# Altium schematic symbol library vTTL.SCHLIB: 172 symbols
Pins are listed as number, name and electrical type; pins without a type are passive.

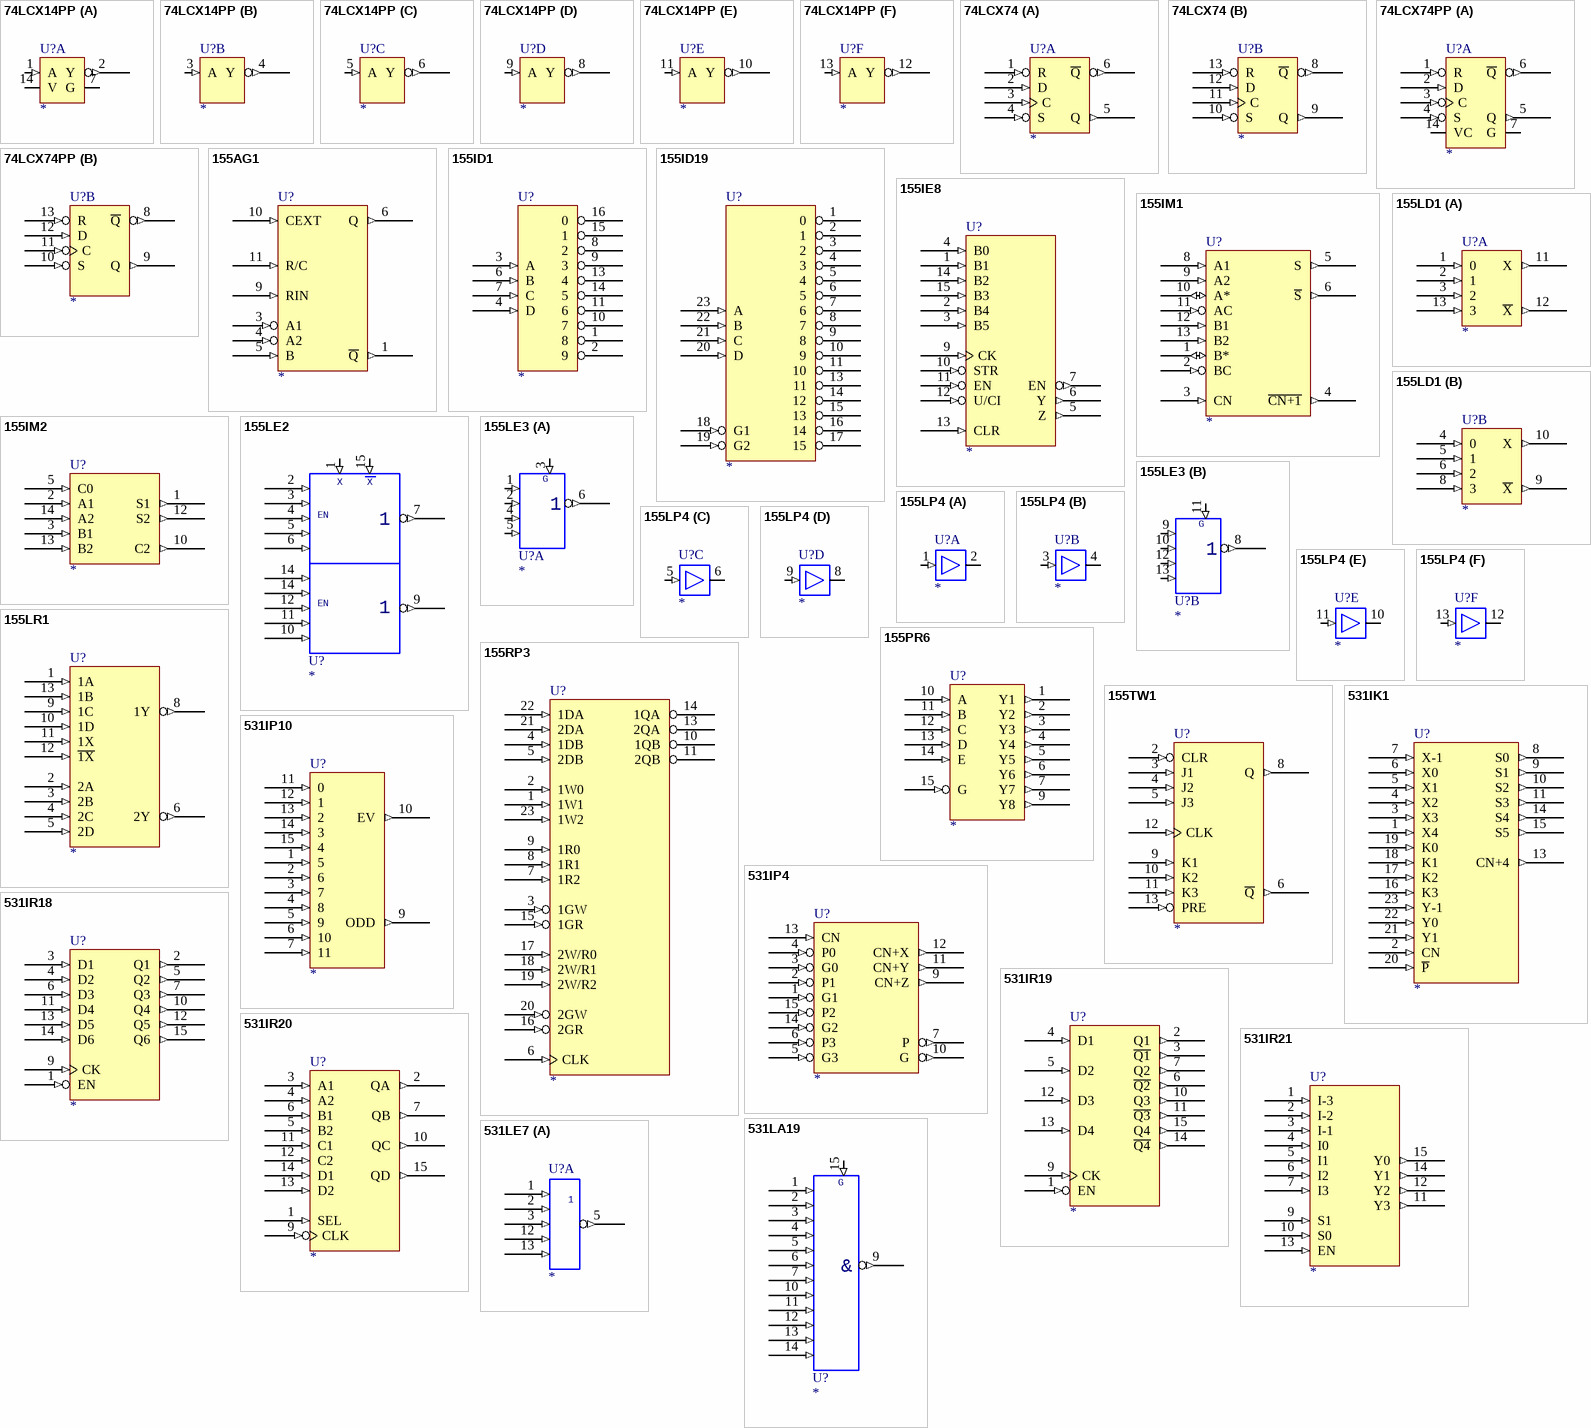
[diagram p0: symbols 74LCX14PP to 531LE7]

## 74LCX14PP
designator U?
Text Field1: 30; Text Field2: 30
part A pins: 1 A (in), 2 Y (out), 7 G, 14 V
part B pins: 3 A (in), 4 Y (out)
part C pins: 5 A (in), 6 Y (out)
part D pins: 8 Y (out), 9 A (in)
part E pins: 10 Y (out), 11 A (in)
part F pins: 12 Y (out), 13 A (in)

## 74LCX74
designator U?
Text Field1: 40; Text Field2: 50
part A pins: 1 R (in), 2 D (in), 3 C (in), 4 S (in), 5 Q (out), 6 ~{Q} (out), 7 GND (power) hidden to GND, 14 +5V (power) hidden to +5V
part B pins: 7 GND (power) hidden to GND, 8 ~{Q} (out), 9 Q (out), 10 S (in), 11 C (in), 12 D (in), 13 R (in), 14 +5V (power) hidden to +5V

## 74LCX74PP
designator U?
Text Field1: 40; Text Field2: 60
part A pins: 1 R (in), 2 D (in), 3 C (in), 4 S (in), 5 Q (out), 6 ~{Q} (out), 7 G, 14 VC
part B pins: 8 ~{Q} (out), 9 Q (out), 10 S (in), 11 C (in), 12 D (in), 13 R (in)

## 155AG1
designator U?
Text Field1: 60; Text Field2: 110
pins: 1 ~{Q} (out), 3 A1 (in), 4 A2 (in), 5 B (in), 6 Q (out), 9 RIN (in), 10 CEXT (in), 11 R/C (in)

## 155ID1
designator U?
Text Field1: 40; Text Field2: 110
pins: 1 8 (oc), 2 9 (oc), 3 A (in), 4 D (in), 6 B (in), 7 C (in), 8 2 (oc), 9 3 (oc), 10 7 (oc), 11 6 (oc), 13 4 (oc), 14 5 (oc), 15 1 (oc), 16 0 (oc)

## 155ID19
designator U?
Text Field1: 60; Text Field2: 170
pins: 1 0 (oc), 2 1 (oc), 3 2 (oc), 4 3 (oc), 5 4 (oc), 6 5 (oc), 7 6 (oc), 8 7 (oc), 9 8 (oc), 10 9 (oc), 11 10 (oc), 13 11 (oc), 14 12 (oc), 15 13 (oc), 16 14 (oc), 17 15 (oc), 18 G1 (in), 19 G2 (in), 20 D (in), 21 C (in), 22 B (in), 23 A (in)

## 155IE8
designator U?
Text Field1: 60; Text Field2: 140
pins: 1 B1 (in), 2 B4 (in), 3 B5 (in), 4 B0 (in), 5 Z (out), 6 Y (out), 7 EN (out), 9 CK (in), 10 STR (in), 11 EN (in), 12 U/CI (in), 13 CLR (in), 14 B2 (in), 15 B3 (in)

## 155IM1
designator U?
Text Field1: 70; Text Field2: 110
pins: 1 B* (io), 2 BC (in), 3 CN (in), 4 ~{CN+1} (out), 5 S (out), 6 ~{S} (out), 8 A1 (in), 9 A2 (in), 10 A* (io), 11 AC (in), 12 B1 (in), 13 B2 (in)

## 155IM2
designator U?
Text Field1: 60; Text Field2: 60
pins: 1 S1 (out), 2 A1 (in), 3 B1 (in), 5 C0 (in), 10 C2 (out), 12 S2 (out), 13 B2 (in), 14 A2 (in)

## 155LD1
designator U?
Text Field1: 40; Text Field2: 50
part A pins: 1 0 (in), 2 1 (in), 3 2 (in), 11 X (out), 12 ~{X} (out), 13 3 (in)
part B pins: 4 0 (in), 5 1 (in), 6 2 (in), 8 3 (in), 9 ~{X} (out), 10 X (out)

## 155LE2
designator U?
Text Field1: 60; Text Field2: 120
pins: 1 X (in), 2 0 (in), 3 1 (in), 4 2 (in), 5 3 (in), 6 4 (in), 7 ~{O} (out), 9 ~{O} (out), 10 9 (in), 11 8 (in), 12 7 (in), 14 5 (in), 14 6 (in), 15 ~{X} (in)
text: EN

## 155LE3
designator U?
Text Field1: 30; Text Field2: 50
part A pins: 1 0 (in), 2 1 (in), 3 G (in), 4 2 (in), 5 3 (in), 6 ~{O} (out)
part B pins: 8 ~{O} (out), 9 0 (in), 10 1 (in), 11 G (in), 12 2 (in), 13 3 (in)

## 155LP4
designator U?
Text Field1: 20; Text Field2: 20
part A pins: 1 IN (in), 2 OUT (oc), 7 GND (power) hidden to GND, 14 +5V (power) hidden to +5V
part B pins: 3 IN (in), 4 OUT (oc), 7 GND (power) hidden to GND, 14 +5V (power) hidden to +5V
part C pins: 5 IN (in), 6 OUT (oc), 7 GND (power) hidden to GND, 14 +5V (power) hidden to +5V
part D pins: 7 GND (power) hidden to GND, 8 OUT (oc), 9 IN (in), 14 +5V (power) hidden to +5V
part E pins: 7 GND (power) hidden to GND, 10 OUT (oc), 11 IN (in), 14 +5V (power) hidden to +5V
part F pins: 7 GND (power) hidden to GND, 12 OUT (oc), 13 IN (in), 14 +5V (power) hidden to +5V

## 155LR1
designator U?
Text Field1: 60; Text Field2: 120
pins: 1 1A (in), 2 2A (in), 3 2B (in), 4 2C (in), 5 2D (in), 6 2Y (out), 8 1Y (out), 9 1C (in), 10 1D (in), 11 1X (in), 12 ~{1X} (in), 13 1B (in)

## 155PR6
designator U?
Text Field1: 50; Text Field2: 90
pins: 1 Y1 (out), 2 Y2 (out), 3 Y3 (out), 4 Y4 (out), 5 Y5 (out), 6 Y6 (out), 7 Y7 (out), 9 Y8 (out), 10 A (in), 11 B (in), 12 C (in), 13 D (in), 14 E (in), 15 G (in)

## 155RP3
designator U?
Text Field1: 80; Text Field2: 250
pins: 1 1W1 (in), 2 1W0 (in), 3 1GW (in), 4 1DB (in), 5 2DB (in), 6 CLK (in), 7 1R2 (in), 8 1R1 (in), 9 1R0 (in), 10 1QB (hiz), 11 2QB (hiz), 13 2QA (hiz), 14 1QA (hiz), 15 1GR (in), 16 2GR (in), 17 2W/R0 (in), 18 2W/R1 (in), 19 2W/R2 (in), 20 2GW (in), 21 2DA (in), 22 1DA (in), 23 1W2 (in)

## 155TW1
designator U?
Text Field1: 60; Text Field2: 120
pins: 2 CLR (in), 3 J1 (in), 4 J2 (in), 5 J3 (in), 6 ~{Q} (out), 8 Q (out), 9 K1 (in), 10 K2 (in), 11 K3 (in), 12 CLK (in), 13 PRE (in)

## 531IK1
designator U?
Text Field1: 70; Text Field2: 160
pins: 1 X4 (in), 2 CN (in), 3 X3 (in), 4 X2 (in), 5 X1 (in), 6 X0 (in), 7 X-1 (in), 8 S0 (out), 9 S1 (out), 10 S2 (out), 11 S3 (out), 13 CN+4 (out), 14 S4 (out), 15 S5 (out), 16 K3 (in), 17 K2 (in), 18 K1 (in), 19 K0 (in), 20 ~{P} (in), 21 Y1 (in), 22 Y0 (in), 23 Y-1 (in)

## 531IP4
designator U?
Text Field1: 70; Text Field2: 100
pins: 1 G1 (in), 2 P1 (in), 3 G0 (in), 4 P0 (in), 5 G3 (in), 6 P3 (in), 7 P (out), 9 CN+Z (out), 10 G (out), 11 CN+Y (out), 12 CN+X (out), 13 CN (in), 14 G2 (in), 15 P2 (in)

## 531IP10
designator U?
Text Field1: 50; Text Field2: 130
pins: 1 5 (in), 2 6 (in), 3 7 (in), 4 8 (in), 5 9 (in), 6 10 (in), 7 11 (in), 9 ODD (out), 10 EV (out), 11 0 (in), 12 1 (in), 13 2 (in), 14 3 (in), 15 4 (in)

## 531IR18
designator U?
Text Field1: 60; Text Field2: 100
pins: 1 EN (in), 2 Q1 (out), 3 D1 (in), 4 D2 (in), 5 Q2 (out), 6 D3 (in), 7 Q3 (out), 9 CK (in), 10 Q4 (out), 11 D4 (in), 12 Q5 (out), 13 D5 (in), 14 D6 (in), 15 Q6 (out)

## 531IR19
designator U?
Text Field1: 60; Text Field2: 120
pins: 1 EN (in), 2 Q1 (out), 3 ~{Q1} (out), 4 D1 (in), 5 D2 (in), 6 ~{Q2} (out), 7 Q2 (out), 9 CK (in), 10 Q3 (out), 11 ~{Q3} (out), 12 D3 (in), 13 D4 (in), 14 ~{Q4} (out), 15 Q4 (out)

## 531IR20
designator U?
Text Field1: 60; Text Field2: 120
pins: 1 SEL (in), 2 QA (out), 3 A1 (in), 4 A2 (in), 5 B2 (in), 6 B1 (in), 7 QB (out), 9 CLK (in), 10 QC (out), 11 C1 (in), 12 C2 (in), 13 D2 (in), 14 D1 (in), 15 QD (out)

## 531IR21
designator U?
Text Field1: 60; Text Field2: 120
pins: 1 I-3 (in), 2 I-2 (in), 3 I-1 (in), 4 I0 (in), 5 I1 (in), 6 I2 (in), 7 I3 (in), 9 S1 (in), 10 S0 (in), 11 Y3 (out), 12 Y2 (out), 13 EN (in), 14 Y1 (out), 15 Y0 (out)

## 531LA19
designator U?
Text Field1: 30; Text Field2: 130
pins: 1 0 (in), 2 1 (in), 3 2 (in), 4 3 (in), 5 4 (in), 6 5 (in), 7 6 (in), 9 ~{O} (out), 10 7 (in), 11 8 (in), 12 9 (in), 13 10 (in), 14 11 (in), 15 G (in)
text: &

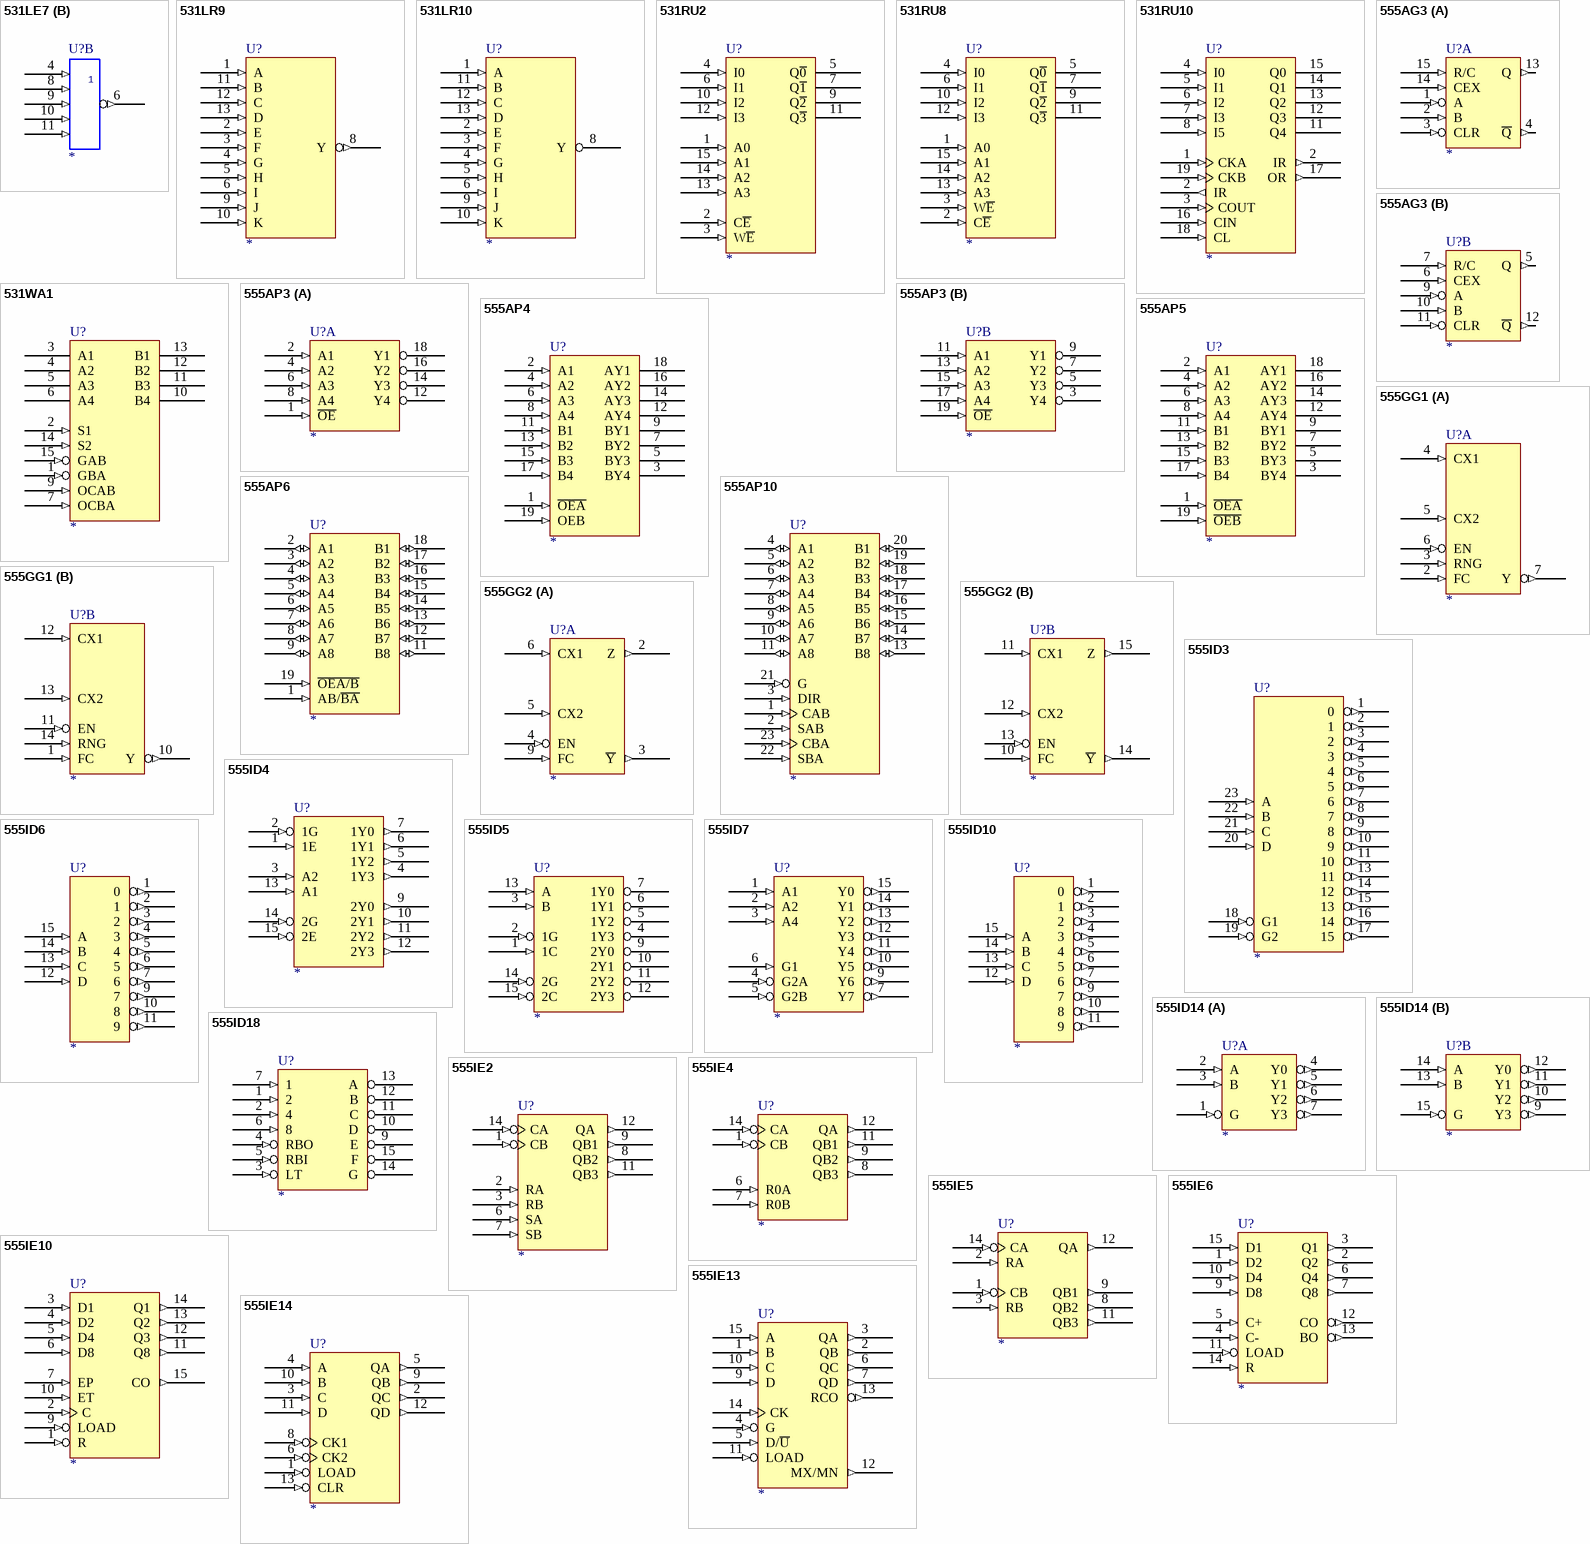
[diagram p1: symbols 531LE7 to 555IE14]

## 531LE7
designator U?
Text Field1: 20; Text Field2: 60
part A pins: 1 0 (in), 2 1 (in), 3 2 (in), 5 ~{O} (out), 12 3 (in), 13 4 (in)
part B pins: 4 0 (in), 6 ~{O} (out), 8 1 (in), 9 2 (in), 10 3 (in), 11 4 (in)

## 531LR9
designator U?
Text Field1: 60; Text Field2: 120
pins: 1 A (in), 2 E (in), 3 F (in), 4 G (in), 5 H (in), 6 I (in), 8 Y (out), 9 J (in), 10 K (in), 11 B (in), 12 C (in), 13 D (in)

## 531LR10
designator U?
Text Field1: 60; Text Field2: 120
pins: 1 A (in), 2 E (in), 3 F (in), 4 G (in), 5 H (in), 6 I (in), 8 Y (oc), 9 J (in), 10 K (in), 11 B (in), 12 C (in), 13 D (in)

## 531RU2
designator U?
Text Field1: 60; Text Field2: 130
pins: 1 A0 (in), 2 C~{E} (in), 3 W~{E} (in), 4 I0 (in), 5 Q~{0} (oc), 6 I1 (in), 7 Q~{1} (oc), 9 Q~{2} (oc), 10 I2 (in), 11 Q~{3} (oc), 12 I3 (in), 13 A3 (in), 14 A2 (in), 15 A1 (in)

## 531RU8
designator U?
Text Field1: 60; Text Field2: 120
pins: 1 A0 (in), 2 C~{E} (in), 3 W~{E} (in), 4 I0 (in), 5 Q~{0} (hiz), 6 I1 (in), 7 Q~{1} (hiz), 9 Q~{2} (hiz), 10 I2 (in), 11 Q~{3} (hiz), 12 I3 (in), 13 A3 (in), 14 A2 (in), 15 A1 (in)

## 531RU10
designator U?
Text Field1: 60; Text Field2: 130
pins: 1 CKA (in), 2 IR (out), 2 IR (out), 3 COUT (in), 4 I0 (in), 5 I1 (in), 6 I2 (in), 7 I3 (in), 8 I5 (in), 11 Q4 (hiz), 12 Q3 (hiz), 13 Q2 (hiz), 14 Q1 (hiz), 15 Q0 (hiz), 16 CIN (in), 17 OR (out), 18 CL (in), 19 CKB (in)

## 531WA1
designator U?
Text Field1: 60; Text Field2: 120
pins: 1 GBA (in), 2 S1 (in), 3 A1 (hiz), 4 A2 (hiz), 5 A3 (hiz), 6 A4 (hiz), 7 OCBA (in), 9 OCAB (in), 10 B4 (hiz), 11 B3 (hiz), 12 B2 (hiz), 13 B1 (hiz), 14 S2 (in), 15 GAB (in)

## 555AG3
designator U?
Text Field1: 50; Text Field2: 60
part A pins: 1 A (in), 2 B (in), 3 CLR (in), 4 ~{Q} (out), 13 Q (out), 14 CEX (in), 15 R/C (in)
part B pins: 5 Q (out), 6 CEX (in), 7 R/C (in), 9 A (in), 10 B (in), 11 CLR (in), 12 ~{Q} (out)

## 555AP3
designator U?
Text Field1: 60; Text Field2: 60
part A pins: 1 ~{OE} (in), 2 A1 (in), 4 A2 (in), 6 A3 (in), 8 A4 (in), 12 Y4 (hiz), 14 Y3 (hiz), 16 Y2 (hiz), 18 Y1 (hiz)
part B pins: 3 Y4 (hiz), 5 Y3 (hiz), 7 Y2 (hiz), 9 Y1 (hiz), 11 A1 (in), 13 A2 (in), 15 A3 (in), 17 A4 (in), 19 ~{OE} (in)

## 555AP4
designator U?
Text Field1: 60; Text Field2: 120
pins: 1 ~{OEA} (in), 2 A1 (in), 3 BY4 (hiz), 4 A2 (in), 5 BY3 (hiz), 6 A3 (in), 7 BY2 (hiz), 8 A4 (in), 9 BY1 (hiz), 11 B1 (in), 12 AY4 (hiz), 13 B2 (in), 14 AY3 (hiz), 15 B3 (in), 16 AY2 (hiz), 17 B4 (in), 18 AY1 (hiz), 19 OEB (in)

## 555AP5
designator U?
Text Field1: 60; Text Field2: 120
pins: 1 ~{OEA} (in), 2 A1 (in), 3 BY4 (hiz), 4 A2 (in), 5 BY3 (hiz), 6 A3 (in), 7 BY2 (hiz), 8 A4 (in), 9 BY1 (hiz), 10 GND (power) hidden to GND, 11 B1 (in), 12 AY4 (hiz), 13 B2 (in), 14 AY3 (hiz), 15 B3 (in), 16 AY2 (hiz), 17 B4 (in), 18 AY1 (hiz), 19 ~{OEB} (in), 20 +5V (power) hidden to +5V

## 555AP6
designator U?
Text Field1: 60; Text Field2: 120
pins: 1 AB/~{BA} (in), 2 A1 (io), 3 A2 (io), 4 A3 (io), 5 A4 (io), 6 A5 (io), 7 A6 (io), 8 A7 (io), 9 A8 (io), 10 GND (power) hidden to GND, 11 B8 (io), 12 B7 (io), 13 B6 (io), 14 B5 (io), 15 B4 (io), 16 B3 (io), 17 B2 (io), 18 B1 (io), 19 ~{OEA/B} (in), 20 +5V (power) hidden to +5V

## 555AP10
designator U?
Text Field1: 60; Text Field2: 160
pins: 1 CAB (in), 2 SAB (in), 3 DIR (in), 4 A1 (io), 5 A2 (io), 6 A3 (io), 7 A4 (io), 8 A5 (io), 9 A6 (io), 10 A7 (io), 11 A8 (io), 13 B8 (io), 14 B7 (io), 15 B6 (io), 16 B5 (io), 17 B4 (io), 18 B3 (io), 19 B2 (io), 20 B1 (io), 21 G (in), 22 SBA (in), 23 CBA (in)

## 555GG1
designator U?
Text Field1: 50; Text Field2: 100
part A pins: 2 FC (in), 3 RNG (in), 4 CX1 (in), 5 CX2 (in), 6 EN (in), 7 Y (out), 8 VCOGND (power) hidden to VCOGND, 15 VCOVCC (power) hidden to VCOVCC
part B pins: 1 FC (in), 8 VCOGND (power) hidden to VCOGND, 10 Y (out), 11 EN (in), 12 CX1 (in), 13 CX2 (in), 14 RNG (in), 15 VCOVCC (power) hidden to VCOVCC

## 555GG2
designator U?
Text Field1: 50; Text Field2: 90
part A pins: 1 GND (power) hidden to GND, 2 Z (out), 3 ~{Y} (out), 4 EN (in), 5 CX2 (in), 6 CX1 (in), 7 VCOVCC (power) hidden to VCOVCC, 9 FC (in)
part B pins: 1 GND (power) hidden to GND, 7 VCOVCC (power) hidden to VCOVCC, 10 FC (in), 11 CX1 (in), 12 CX2 (in), 13 EN (in), 14 ~{Y} (out), 15 Z (out)

## 555ID3
designator U?
Text Field1: 60; Text Field2: 170
pins: 1 0 (out), 2 1 (out), 3 2 (out), 4 3 (out), 5 4 (out), 6 5 (out), 7 6 (out), 8 7 (out), 9 8 (out), 10 9 (out), 11 10 (out), 13 11 (out), 14 12 (out), 15 13 (out), 16 14 (out), 17 15 (out), 18 G1 (in), 19 G2 (in), 20 D (in), 21 C (in), 22 B (in), 23 A (in)

## 555ID4
designator U?
Text Field1: 60; Text Field2: 100
pins: 1 1E (in), 2 1G (in), 3 A2 (in), 4 1Y3 (out), 5 1Y2 (out), 6 1Y1 (out), 7 1Y0 (out), 9 2Y0 (out), 10 2Y1 (out), 11 2Y2 (out), 12 2Y3 (out), 13 A1 (in), 14 2G (in), 15 2E (in)

## 555ID5
designator U?
Text Field1: 60; Text Field2: 90
pins: 1 1C (in), 2 1G (in), 3 B (in), 4 1Y3 (oc), 5 1Y2 (oc), 6 1Y1 (oc), 7 1Y0 (oc), 9 2Y0 (oc), 10 2Y1 (oc), 11 2Y2 (oc), 12 2Y3 (oc), 13 A (in), 14 2G (in), 15 2C (in)

## 555ID6
designator U?
Text Field1: 40; Text Field2: 110
pins: 1 0 (out), 2 1 (out), 3 2 (out), 4 3 (out), 5 4 (out), 6 5 (out), 7 6 (out), 9 7 (out), 10 8 (out), 11 9 (out), 12 D (in), 13 C (in), 14 B (in), 15 A (in)

## 555ID7
designator U?
Text Field1: 60; Text Field2: 90
pins: 1 A1 (in), 2 A2 (in), 3 A4 (in), 4 G2A (in), 5 G2B (in), 6 G1 (in), 7 Y7 (out), 9 Y6 (out), 10 Y5 (out), 11 Y4 (out), 12 Y3 (out), 13 Y2 (out), 14 Y1 (out), 15 Y0 (out)

## 555ID10
designator U?
Text Field1: 40; Text Field2: 110
pins: 1 0 (out), 2 1 (out), 3 2 (out), 4 3 (out), 5 4 (out), 6 5 (out), 7 6 (out), 9 7 (out), 10 8 (out), 11 9 (out), 12 D (in), 13 C (in), 14 B (in), 15 A (in)

## 555ID14
designator U?
Text Field1: 50; Text Field2: 50
part A pins: 1 G (in), 2 A (in), 3 B (in), 4 Y0 (out), 5 Y1 (out), 6 Y2 (out), 7 Y3 (out)
part B pins: 9 Y3 (out), 10 Y2 (out), 11 Y1 (out), 12 Y0 (out), 13 B (in), 14 A (in), 15 G (in)

## 555ID18
designator U?
Text Field1: 60; Text Field2: 80
pins: 1 2 (in), 2 4 (in), 3 LT (in), 4 RBO (in), 5 RBI (in), 6 8 (in), 7 1 (in), 9 E (oc), 10 D (oc), 11 C (oc), 12 B (oc), 13 A (oc), 14 G (oc), 15 F (oc)

## 555IE2
designator U?
Text Field1: 60; Text Field2: 90
pins: 1 CB (in), 2 RA (in), 3 RB (in), 6 SA (in), 7 SB (in), 8 QB2 (out), 9 QB1 (out), 11 QB3 (out), 12 QA  (out), 14 CA (in)

## 555IE4
designator U?
Text Field1: 60; Text Field2: 70
pins: 1 CB (in), 6 R0A (in), 7 R0B (in), 8 QB3 (out), 9 QB2 (out), 11 QB1 (out), 12 QA (out), 14 CA (in)

## 555IE5
designator U?
Text Field1: 60; Text Field2: 70
pins: 1 CB (in), 2 RA (in), 3 RB (in), 8 QB2 (out), 9 QB1 (out), 11 QB3 (out), 12 QA (out), 14 CA (in)

## 555IE6
designator U?
Text Field1: 60; Text Field2: 100
pins: 1 D2 (in), 2 Q2 (out), 3 Q1 (out), 4 C- (in), 5 C+ (in), 6 Q4 (out), 7 Q8 (out), 8 GND (power) hidden to GND, 9 D8 (in), 10 D4 (in), 11 LOAD (in), 12 CO (out), 13 BO (out), 14 R (in), 15 D1 (in), 16 +5V (power) hidden to +5V

## 555IE10
designator U?
Text Field1: 60; Text Field2: 110
pins: 1 R (in), 2 C (in), 3 D1 (in), 4 D2 (in), 5 D4 (in), 6 D8 (in), 7 EP (in), 8 GND (power) hidden to GND, 9 LOAD (in), 10 ET (in), 11 Q8 (out), 12 Q3 (out), 13 Q2 (out), 14 Q1 (out), 15 CO (out), 16 +5V (power) hidden to +5V

## 555IE13
designator U?
Text Field1: 60; Text Field2: 110
pins: 1 B (in), 2 QB (out), 3 QA (out), 4 G (in), 5 D/~{U} (in), 6 QC (out), 7 QD (out), 9 D (in), 10 C (in), 11 LOAD (in), 12 MX/MN (out), 13 RCO (out), 14 CK (in), 15 A (in)

## 555IE14
designator U?
Text Field1: 60; Text Field2: 100
pins: 1 LOAD (in), 2 QC (out), 3 C (in), 4 A (in), 5 QA (out), 6 CK2 (in), 8 CK1 (in), 9 QB (out), 10 B (in), 11 D (in), 12 QD (out), 13 CLR (in)

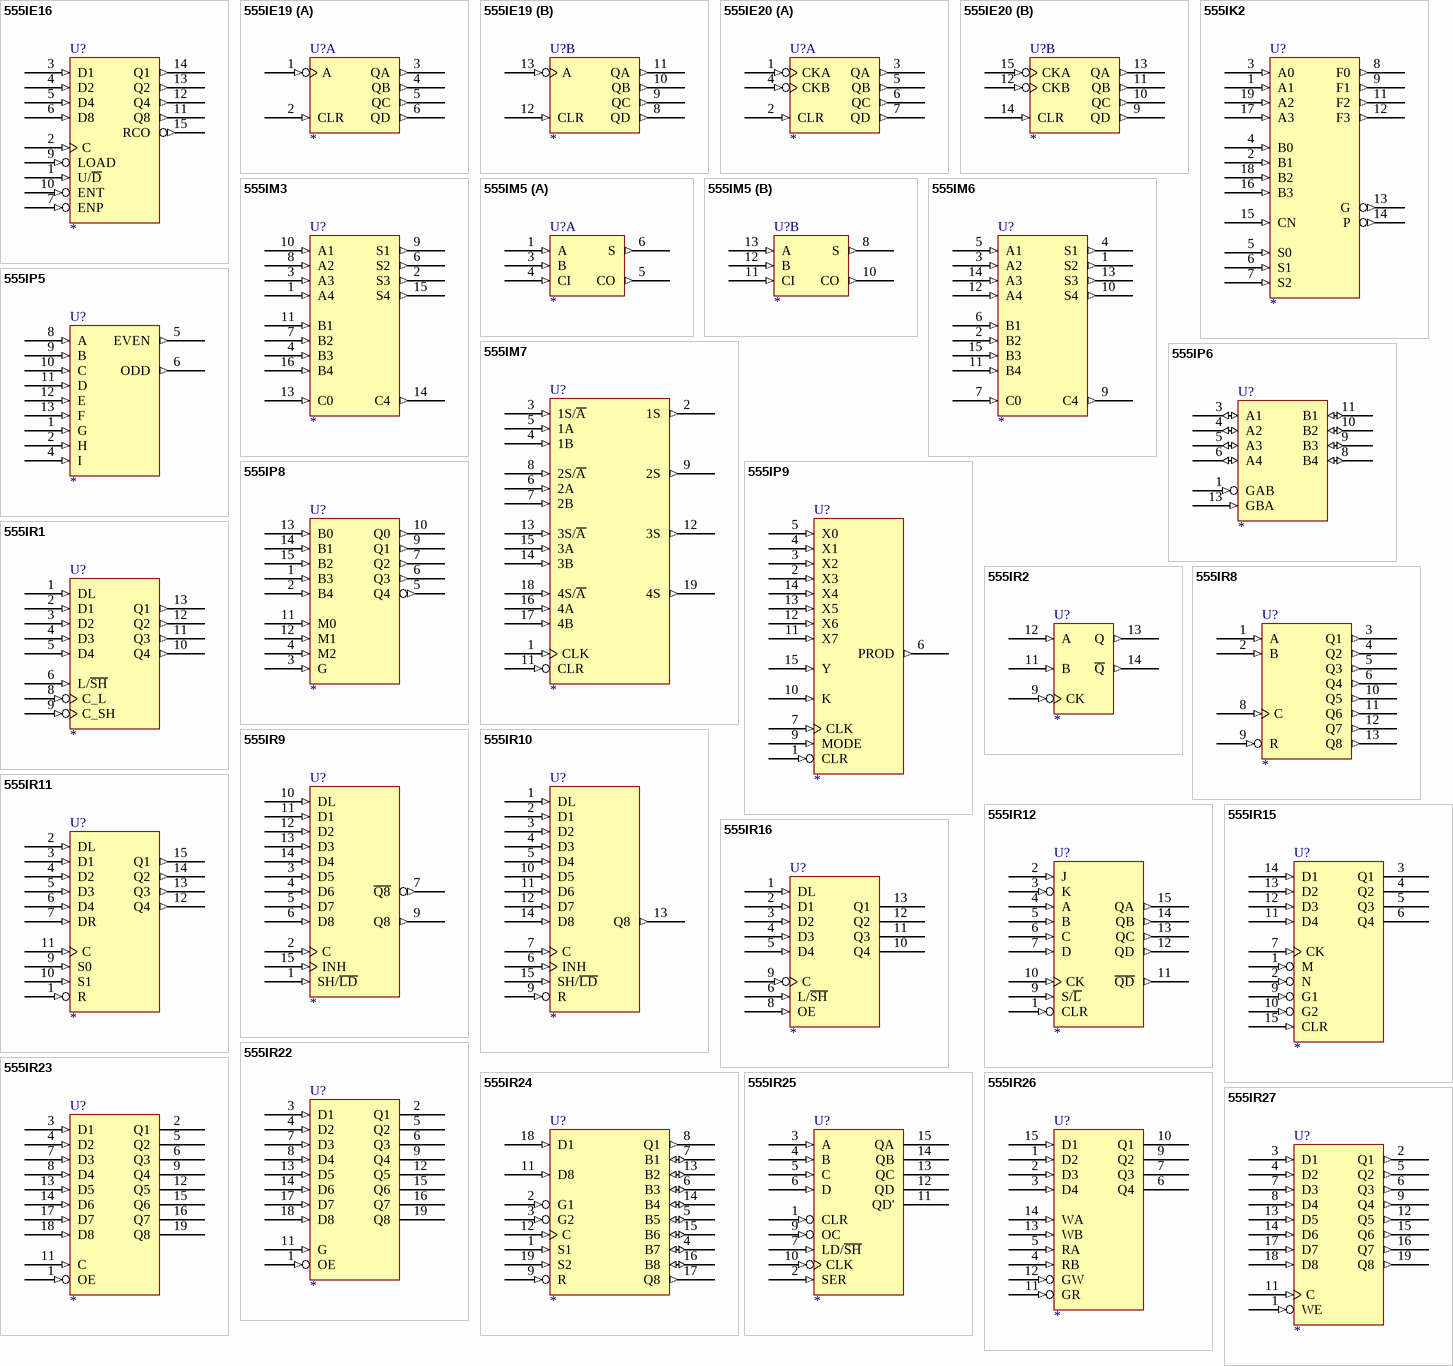
[diagram p2: symbols 555IE16 to 555IR27]

## 555IE16
designator U?
Text Field1: 60; Text Field2: 110
pins: 1 U/~{D} (in), 2 C (in), 3 D1 (in), 4 D2 (in), 5 D4 (in), 6 D8 (in), 7 ENP (in), 9 LOAD (in), 10 ENT (in), 11 Q8 (out), 12 Q4 (out), 13 Q2 (out), 14 Q1 (out), 15 RCO (out)

## 555IE19
designator U?
Text Field1: 60; Text Field2: 50
part A pins: 1 A (in), 2 CLR (in), 3 QA (out), 4 QB (out), 5 QC (out), 6 QD (out)
part B pins: 8 QD (out), 9 QC (out), 10 QB (out), 11 QA (out), 12 CLR (in), 13 A (in)

## 555IE20
designator U?
Text Field1: 60; Text Field2: 50
part A pins: 1 CKA (in), 2 CLR (in), 3 QA (out), 4 CKB (in), 5 QB (out), 6 QC (out), 7 QD (out)
part B pins: 9 QD (out), 10 QC (out), 11 QB (out), 12 CKB (in), 13 QA (out), 14 CLR (in), 15 CKA (in)

## 555IK2
designator U?
Text Field1: 60; Text Field2: 160
pins: 1 A1 (in), 2 B1 (in), 3 A0 (in), 4 B0 (in), 5 S0 (in), 6 S1 (in), 7 S2 (in), 8 F0 (out), 9 F1 (out), 11 F2 (out), 12 F3 (out), 13 G (out), 14 P (out), 15 CN (in), 16 B3 (in), 17 A3 (in), 18 B2 (in), 19 A2 (in)

## 555IM3
designator U?
Text Field1: 60; Text Field2: 120
pins: 1 A4 (in), 2 S3 (out), 3 A3 (in), 4 B3 (in), 6 S2 (out), 7 B2 (in), 8 A2 (in), 9 S1 (out), 10 A1 (in), 11 B1 (in), 13 C0 (in), 14 C4 (out), 15 S4 (out), 16 B4 (in)

## 555IM5
designator U?
Text Field1: 50; Text Field2: 40
part A pins: 1 A (in), 3 B (in), 4 CI (in), 5 CO (out), 6 S (out)
part B pins: 8 S (out), 10 CO (out), 11 CI (in), 12 B (in), 13 A (in)

## 555IM6
designator U?
Text Field1: 60; Text Field2: 120
pins: 1 S2 (out), 2 B2 (in), 3 A2 (in), 4 S1 (out), 5 A1 (in), 6 B1 (in), 7 C0 (in), 9 C4 (out), 10 S4 (out), 11 B4 (in), 12 A4 (in), 13 S3 (out), 14 A3 (in), 15 B3 (in)

## 555IM7
designator U?
Text Field1: 80; Text Field2: 190
pins: 1 CLK (in), 2 1S (out), 3 1S/~{A} (in), 4 1B (in), 5 1A (in), 6 2A (in), 7 2B (in), 8 2S/~{A} (in), 9 2S (out), 11 CLR (in), 12 3S (out), 13 3S/~{A} (in), 14 3B (in), 15 3A (in), 16 4A (in), 17 4B (in), 18 4S/~{A} (in), 19 4S (out)

## 555IP5
designator U?
Text Field1: 60; Text Field2: 100
pins: 1 G (in), 2 H (in), 4 I (in), 5 EVEN (out), 6 ODD (out), 8 A (in), 9 B (in), 10 C (in), 11 D (in), 12 E (in), 13 F (in)

## 555IP6
designator U?
Text Field1: 60; Text Field2: 80
pins: 1 GAB (in), 3 A1 (io), 4 A2 (io), 5 A3 (io), 6 A4 (io), 8 B4 (io), 9 B3 (io), 10 B2 (io), 11 B1 (io), 13 GBA (in)

## 555IP8
designator U?
Text Field1: 60; Text Field2: 110
pins: 1 B3 (in), 2 B4 (in), 3 G (in), 4 M2 (in), 5 Q4 (out), 6 Q3 (out), 7 Q2 (out), 9 Q1 (out), 10 Q0 (out), 11 M0 (in), 12 M1 (in), 13 B0 (in), 14 B1 (in), 15 B2 (in)

## 555IP9
designator U?
Text Field1: 60; Text Field2: 170
pins: 1 CLR (in), 2 X3 (in), 3 X2 (in), 4 X1 (in), 5 X0 (in), 6 PROD (out), 7 CLK (in), 9 MODE (in), 10 K (in), 11 X7 (in), 12 X6 (in), 13 X5 (in), 14 X4 (in), 15 Y (in)

## 555IR1
designator U?
Text Field1: 60; Text Field2: 100
pins: 1 DL (in), 2 D1 (in), 3 D2 (in), 4 D3 (in), 5 D4 (in), 6 L/~{SH} (in), 7 GND (power) hidden to GND, 8 C_L (in), 9 C_SH (in), 10 Q4 (out), 11 Q3 (out), 12 Q2 (out), 13 Q1 (out), 14 +5V (power) hidden to +5V

## 555IR2
designator U?
Text Field1: 40; Text Field2: 60
pins: 9 CK (in), 11 B (in), 12 A (in), 13 Q (out), 14 ~{Q} (out)

## 555IR8
designator U?
Text Field1: 60; Text Field2: 90
pins: 1 A (in), 2 B (in), 3 Q1 (out), 4 Q2 (out), 5 Q3 (out), 6 Q4 (out), 7 GND (power) hidden to GND, 8 C (in), 9 R (in), 10 Q5 (out), 11 Q6 (out), 12 Q7 (out), 13 Q8 (out), 14 VCC (power) hidden to VCC

## 555IR9
designator U?
Text Field1: 60; Text Field2: 140
pins: 1 SH/~{LD} (in), 2 C (in), 3 D5 (in), 4 D6 (in), 5 D7 (in), 6 D8 (in), 7 ~{Q8} (out), 9 Q8 (out), 10 DL (in), 11 D1 (in), 12 D2 (in), 13 D3 (in), 14 D4 (in), 15 INH (in)

## 555IR10
designator U?
Text Field1: 60; Text Field2: 150
pins: 1 DL (in), 2 D1 (in), 3 D2 (in), 4 D3 (in), 5 D4 (in), 6 INH (in), 7 C (in), 9 R (in), 10 D5 (in), 11 D6 (in), 12 D7 (in), 13 Q8 (out), 14 D8 (in), 15 SH/~{LD} (in)

## 555IR11
designator U?
Text Field1: 60; Text Field2: 120
pins: 1 R (in), 2 DL (in), 3 D1 (in), 4 D2 (in), 5 D3 (in), 6 D4 (in), 7 DR (in), 9 S0 (in), 10 S1 (in), 11 C (in), 12 Q4 (out), 13 Q3 (out), 14 Q2 (out), 15 Q1 (out)

## 555IR12
designator U?
Text Field1: 60; Text Field2: 110
pins: 1 CLR (in), 2 J (in), 3 K (in), 4 A (in), 5 B (in), 6 C (in), 7 D (in), 9 S/~{L} (in), 10 CK (in), 11 ~{QD} (out), 12 QD (out), 13 QC (out), 14 QB (out), 15 QA (out)

## 555IR15
designator U?
Text Field1: 60; Text Field2: 120
pins: 1 M (in), 2 N (in), 3 Q1 (hiz), 4 Q2 (hiz), 5 Q3 (hiz), 6 Q4 (hiz), 7 CK (in), 9 G1 (in), 10 G2 (in), 11 D4 (in), 12 D3 (in), 13 D2 (in), 14 D1 (in), 15 CLR (in)

## 555IR16
designator U?
Text Field1: 60; Text Field2: 100
pins: 1 DL (in), 2 D1 (in), 3 D2 (in), 4 D3 (in), 5 D4 (in), 6 L/~{SH} (in), 7 GND (power) hidden to GND, 8 OE (in), 9 C (in), 10 Q4 (hiz), 11 Q3 (hiz), 12 Q2 (hiz), 13 Q1 (hiz), 14 +5V (power) hidden to +5V

## 555IR22
designator U?
Text Field1: 60; Text Field2: 120
pins: 1 OE (in), 2 Q1 (hiz), 3 D1 (in), 4 D2 (in), 5 Q2 (hiz), 6 Q3 (hiz), 7 D3 (in), 8 D4 (in), 9 Q4 (hiz), 10 GND (power) hidden to GND, 11 G (in), 12 Q5 (hiz), 13 D5 (in), 14 D6 (in), 15 Q6 (hiz), 16 Q7 (hiz), 17 D7 (in), 18 D8 (in), 19 Q8 (hiz), 20 +5V (power) hidden to +5V

## 555IR23
designator U?
Text Field1: 60; Text Field2: 120
pins: 1 OE (in), 2 Q1 (hiz), 3 D1 (in), 4 D2 (in), 5 Q2 (hiz), 6 Q3 (hiz), 7 D3 (in), 8 D4 (in), 9 Q4 (hiz), 10 GND (power) hidden to GND, 11 C (in), 12 Q5 (hiz), 13 D5 (in), 14 D6 (in), 15 Q6 (hiz), 16 Q7 (hiz), 17 D7 (in), 18 D8 (in), 19 Q8 (hiz), 20 +5V (power) hidden to +5V

## 555IR24
designator U?
Text Field1: 80; Text Field2: 110
pins: 1 S1 (in), 2 G1 (in), 3 G2 (in), 4 B7 (io), 5 B5 (io), 6 B3 (io), 7 B1 (io), 8 Q1 (out), 9 R (in), 11 D8 (in), 12 C (in), 13 B2 (io), 14 B4 (io), 15 B6 (io), 16 B8 (io), 17 Q8 (out), 18 D1 (in), 19 S2 (in)

## 555IR25
designator U?
Text Field1: 60; Text Field2: 110
pins: 1 CLR (in), 2 SER (in), 3 A (in), 4 B (in), 5 C (in), 6 D (in), 7 LD/~{SH} (in), 9 OC (in), 10 CLK (in), 11 QD' (hiz), 12 QD (hiz), 13 QC (hiz), 14 QB (hiz), 15 QA (hiz)

## 555IR26
designator U?
Text Field1: 60; Text Field2: 120
pins: 1 D2 (in), 2 D3 (in), 3 D4 (in), 4 RB (in), 5 RA (in), 6 Q4 (hiz), 7 Q3 (hiz), 9 Q2 (hiz), 10 Q1 (hiz), 11 GR (in), 12 GW (in), 13 WB (in), 14 WA (in), 15 D1 (in)

## 555IR27
designator U?
Text Field1: 60; Text Field2: 120
pins: 1 WE (in), 2 Q1 (out), 3 D1 (in), 4 D2 (in), 5 Q2 (out), 6 Q3 (out), 7 D3 (in), 8 D4 (in), 9 Q4 (out), 10 GND (power) hidden to GND, 11 C (in), 12 Q5 (out), 13 D5 (in), 14 D6 (in), 15 Q6 (out), 16 Q7 (out), 17 D7 (in), 18 D8 (in), 19 Q8 (out), 20 +5V (power) hidden to +5V

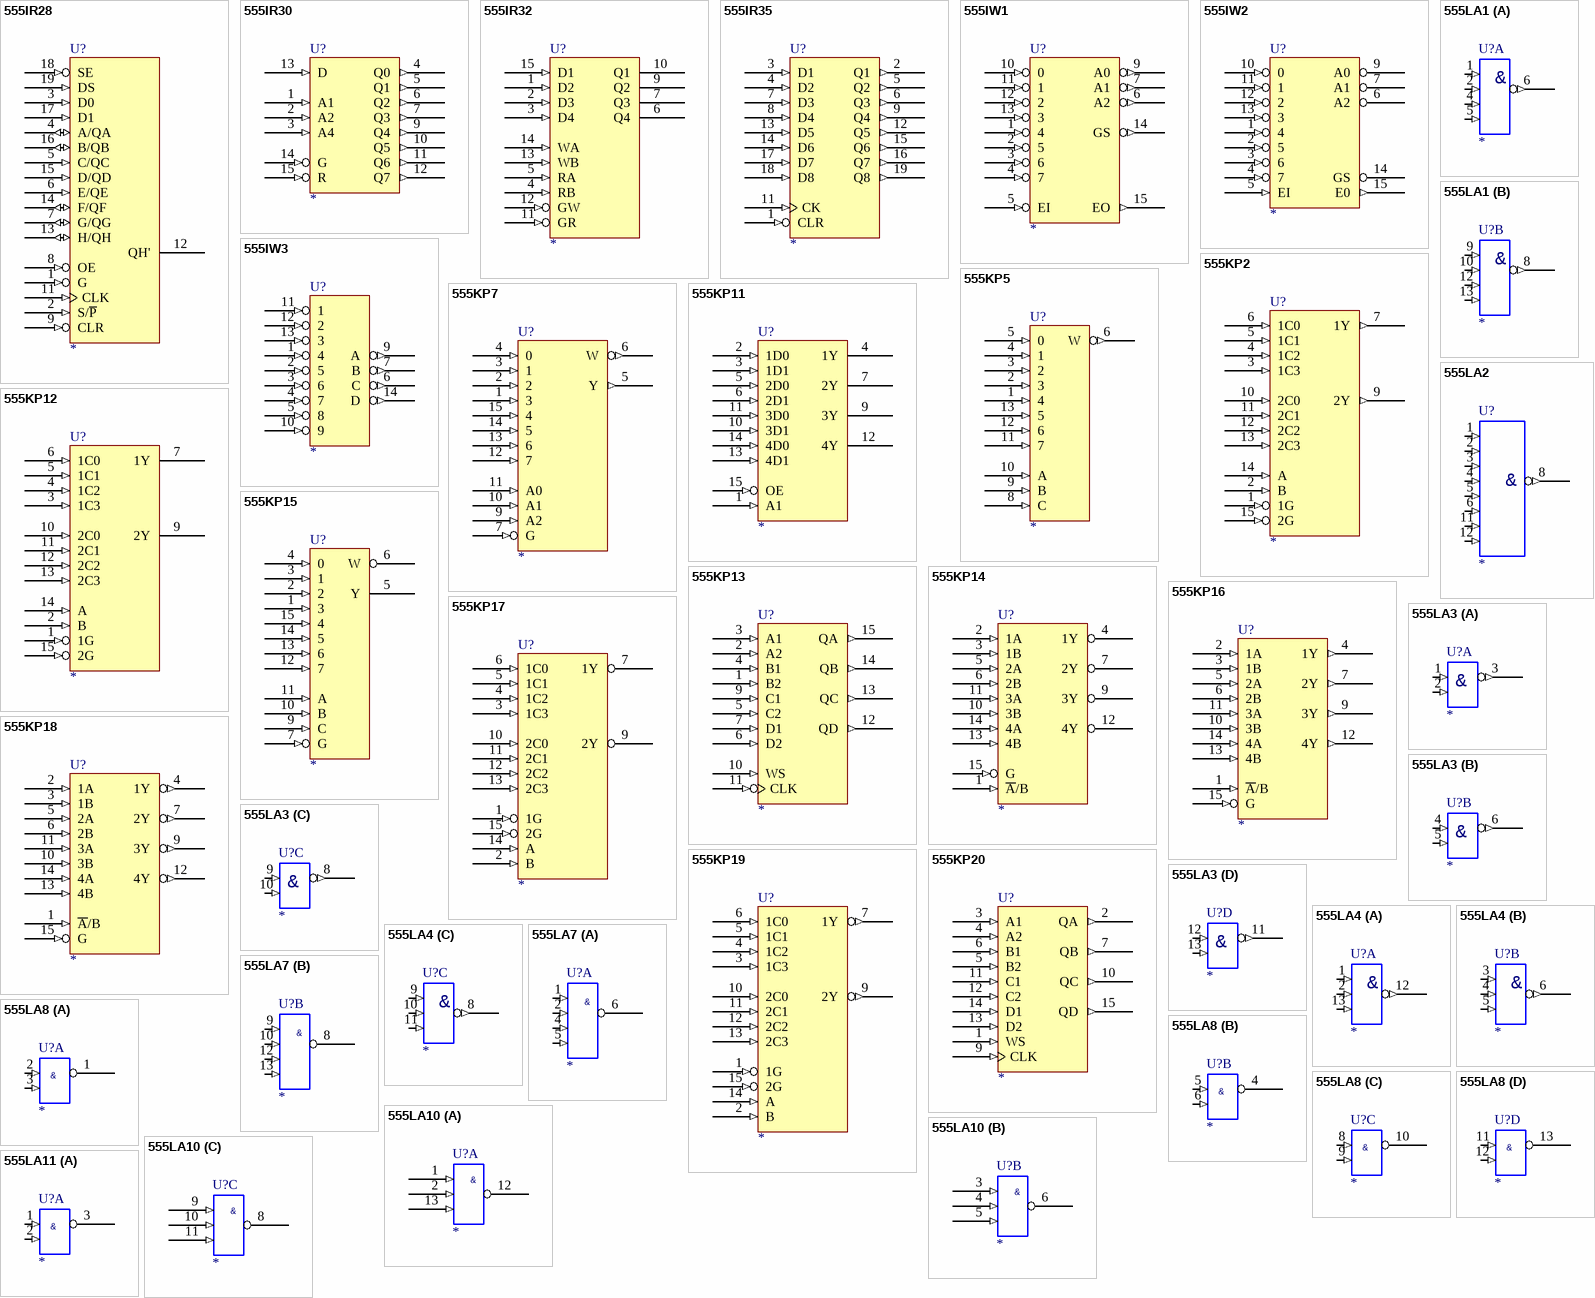
[diagram p3: symbols 555IR28 to 555LA11]

## 555IR28
designator U?
Text Field1: 60; Text Field2: 190
pins: 1 G (in), 2 S/~{P} (in), 3 D0 (in), 4 A/QA (io), 5 C/QC (in), 6 E/QE (in), 7 G/QG (io), 8 OE (in), 9 CLR (in), 11 CLK (in), 12 QH' (hiz), 13 H/QH (io), 14 F/QF (io), 15 D/QD (in), 16 B/QB (io), 17 D1 (in), 18 SE (in), 19 DS (in)

## 555IR30
designator U?
Text Field1: 60; Text Field2: 90
pins: 1 A1 (in), 2 A2 (in), 3 A4 (in), 4 Q0 (out), 5 Q1 (out), 6 Q2 (out), 7 Q3 (out), 9 Q4 (out), 10 Q5 (out), 11 Q6 (out), 12 Q7 (out), 13 D (in), 14 G (in), 15 R (in)

## 555IR32
designator U?
Text Field1: 60; Text Field2: 120
pins: 1 D2 (in), 2 D3 (in), 3 D4 (in), 4 RB (in), 5 RA (in), 6 Q4 (oc), 7 Q3 (oc), 9 Q2 (oc), 10 Q1 (oc), 11 GR (in), 12 GW (in), 13 WB (in), 14 WA (in), 15 D1 (in)

## 555IR35
designator U?
Text Field1: 60; Text Field2: 120
pins: 1 CLR (in), 2 Q1 (out), 3 D1 (in), 4 D2 (in), 5 Q2 (out), 6 Q3 (out), 7 D3 (in), 8 D4 (in), 9 Q4 (out), 11 CK (in), 12 Q5 (out), 13 D5 (in), 14 D6 (in), 15 Q6 (out), 16 Q7 (out), 17 D7 (in), 18 D8 (in), 19 Q8 (out)

## 555IW1
designator U?
Text Field1: 60; Text Field2: 110
pins: 1 4 (in), 2 5 (in), 3 6 (in), 4 7 (in), 5 EI (in), 6 A2 (out), 7 A1 (out), 9 A0 (out), 10 0 (in), 11 1 (in), 12 2 (in), 13 3 (in), 14 GS (out), 15 EO (out)

## 555IW2
designator U?
Text Field1: 60; Text Field2: 100
pins: 1 4 (in), 2 5 (in), 3 6 (in), 4 7 (in), 5 EI (in), 6 A2 (hiz), 7 A1 (hiz), 9 A0 (hiz), 10 0 (in), 11 1 (in), 12 2 (in), 13 3 (in), 14 GS (hiz), 15 E0 (out)

## 555IW3
designator U?
Text Field1: 40; Text Field2: 100
pins: 1 4 (in), 2 5 (in), 3 6 (in), 4 7 (in), 5 8 (in), 6 C (out), 7 B (out), 9 A (out), 10 9 (in), 11 1 (in), 12 2 (in), 13 3 (in), 14 D (out)

## 555KP2
designator U?
Text Field1: 60; Text Field2: 150
pins: 1 1G (in), 2 B (in), 3 1C3 (in), 4 1C2 (in), 5 1C1 (in), 6 1C0 (in), 7 1Y (out), 9 2Y (out), 10 2C0 (in), 11 2C1 (in), 12 2C2 (in), 13 2C3 (in), 14 A (in), 15 2G (in)

## 555KP5
designator U?
Text Field1: 40; Text Field2: 130
pins: 1 4 (in), 2 3 (in), 3 2 (in), 4 1 (in), 5 0 (in), 6 W (out), 8 C (in), 9 B (in), 10 A (in), 11 7 (in), 12 6 (in), 13 5 (in)

## 555KP7
designator U?
Text Field1: 60; Text Field2: 140
pins: 1 3 (in), 2 (in), 3 1 (in), 4 0 (in), 5 Y (out), 6 W (out), 7 G (in), 9 A2 (in), 10 A1 (in), 11 A0 (in), 12 7 (in), 13 6 (in), 14 5 (in), 15 4 (in)

## 555KP11
designator U?
Text Field1: 60; Text Field2: 120
pins: 1 A1 (in), 2 1D0 (in), 3 1D1 (in), 4 1Y (hiz), 5 2D0 (in), 6 2D1 (in), 7 2Y (hiz), 9 3Y (hiz), 10 3D1 (in), 11 3D0 (in), 12 4Y (hiz), 13 4D1 (in), 14 4D0 (in), 15 OE (in)

## 555KP12
designator U?
Text Field1: 60; Text Field2: 150
pins: 1 1G (in), 2 B (in), 3 1C3 (in), 4 1C2 (in), 5 1C1 (in), 6 1C0 (in), 7 1Y (hiz), 9 2Y (hiz), 10 2C0 (in), 11 2C1 (in), 12 2C2 (in), 13 2C3 (in), 14 A (in), 15 2G (in)

## 555KP13
designator U?
Text Field1: 60; Text Field2: 120
pins: 1 B2 (in), 2 A2 (in), 3 A1 (in), 4 B1 (in), 5 C2 (in), 6 D2 (in), 7 D1 (in), 9 C1 (in), 10 WS (in), 11 CLK (in), 12 QD (out), 13 QC (out), 14 QB (out), 15 QA (out)

## 555KP14
designator U?
Text Field1: 60; Text Field2: 120
pins: 1 ~{A}/B (in), 2 1A (in), 3 1B (in), 4 1Y (hiz), 5 2A (in), 6 2B (in), 7 2Y (hiz), 9 3Y (hiz), 10 3B (in), 11 3A (in), 12 4Y (hiz), 13 4B (in), 14 4A (in), 15 G (in)

## 555KP15
designator U?
Text Field1: 40; Text Field2: 140
pins: 1 3 (in), 2 (in), 3 1 (in), 4 0 (in), 5 Y (hiz), 6 W (hiz), 7 G (in), 9 C (in), 10 B (in), 11 A (in), 12 7 (in), 13 6 (in), 14 5 (in), 15 4 (in)

## 555KP16
designator U?
Text Field1: 60; Text Field2: 120
pins: 1 ~{A}/B (in), 2 1A (in), 3 1B (in), 4 1Y (out), 5 2A (in), 6 2B (in), 7 2Y (out), 9 3Y (out), 10 3B (in), 11 3A (in), 12 4Y (out), 13 4B (in), 14 4A (in), 15 G (in)

## 555KP17
designator U?
Text Field1: 60; Text Field2: 150
pins: 1 1G (in), 2 B (in), 3 1C3 (in), 4 1C2 (in), 5 1C1 (in), 6 1C0 (in), 7 1Y (hiz), 9 2Y (hiz), 10 2C0 (in), 11 2C1 (in), 12 2C2 (in), 13 2C3 (in), 14 A (in), 15 2G (in)

## 555KP18
designator U?
Text Field1: 60; Text Field2: 120
pins: 1 ~{A}/B (in), 2 1A (in), 3 1B (in), 4 1Y (out), 5 2A (in), 6 2B (in), 7 2Y (out), 9 3Y (out), 10 3B (in), 11 3A (in), 12 4Y (out), 13 4B (in), 14 4A (in), 15 G (in)

## 555KP19
designator U?
Text Field1: 60; Text Field2: 150
pins: 1 1G (in), 2 B (in), 3 1C3 (in), 4 1C2 (in), 5 1C1 (in), 6 1C0 (in), 7 1Y (out), 9 2Y (out), 10 2C0 (in), 11 2C1 (in), 12 2C2 (in), 13 2C3 (in), 14 A (in), 15 2G (in)

## 555KP20
designator U?
Text Field1: 60; Text Field2: 110
pins: 1 WS (in), 2 QA (out), 3 A1 (in), 4 A2 (in), 5 B2 (in), 6 B1 (in), 7 QB (out), 9 CLK (in), 10 QC (out), 11 C1 (in), 12 C2 (in), 13 D2 (in), 14 D1 (in), 15 QD (out)

## 555LA1
designator U?
Text Field1: 20; Text Field2: 50
part A pins: 1 I0 (in), 2 I1 (in), 4 I2 (in), 5 I3 (in), 6 ~{O} (out), 7 GND (power) hidden to GND, 14 +5V (power) hidden to +5V
part B pins: 7 GND (power) hidden to GND, 8 ~{O} (out), 9 I0 (in), 10 I1 (in), 12 I2 (in), 13 I3 (in), 14 +5V (power) hidden to +5V
part A text: &
part B text: &

## 555LA2
designator U?
Text Field1: 30; Text Field2: 90
pins: 1 I0 (in), 2 I1 (in), 3 I2 (in), 4 I3 (in), 5 I4 (in), 6 I5 (in), 7 GND (power) hidden to GND, 8 ~{O} (out), 11 I6 (in), 12 I7 (in), 14 +5V (power) hidden to +5V
text: &

## 555LA3
designator U?
Text Field1: 20; Text Field2: 30
part A pins: 1 I0 (in), 2 I1 (in), 3 ~{O} (out), 7 GND (power) hidden to GND, 14 +5V (power) hidden to +5V
part B pins: 4 I0 (in), 5 I1 (in), 6 ~{O} (out), 7 GND (power) hidden to GND, 14 +5V (power) hidden to +5V
part C pins: 7 GND (power) hidden to GND, 8 ~{O} (out), 9 I0 (in), 10 I1 (in), 14 +5V (power) hidden to +5V
part D pins: 7 GND (power) hidden to GND, 11 ~{O} (out), 12 I0 (in), 13 I1 (in), 14 +5V (power) hidden to +5V
part A text: &
part B text: &
part C text: &
part D text: &

## 555LA4
designator U?
Text Field1: 20; Text Field2: 40
part A pins: 1 I0 (in), 2 I1 (in), 7 GND (power) hidden to GND, 12 ~{O} (out), 13 I2 (in), 14 +5V (power) hidden to +5V
part B pins: 3 I0 (in), 4 I1 (in), 5 I2 (in), 6 ~{O} (out), 7 GND (power) hidden to GND, 14 +5V (power) hidden to +5V
part C pins: 7 GND (power) hidden to GND, 8 ~{O} (out), 9 I0 (in), 10 I1 (in), 11 I2 (in), 14 +5V (power) hidden to +5V
part A text: &
part B text: &
part C text: &

## 555LA7
designator U?
Text Field1: 20; Text Field2: 50
part A pins: 1 I0 (in), 2 I1 (in), 4 I2 (in), 5 I3 (in), 6 ~{O} (oc)
part B pins: 8 ~{O} (oc), 9 I0 (in), 10 I1 (in), 12 I2 (in), 13 I3 (in)
part A text: &
part B text: &

## 555LA8
designator U?
Text Field1: 20; Text Field2: 30
part A pins: 1 ~{O} (oc), 2 I0 (in), 3 I1 (in)
part B pins: 4 ~{O} (oc), 5 I0 (in), 6 I1 (in)
part C pins: 8 I0 (in), 9 I1 (in), 10 ~{O} (oc)
part D pins: 11 I0 (in), 12 I1 (in), 13 ~{O} (oc)
part A text: &
part B text: &
part C text: &
part D text: &

## 555LA10
designator U?
Text Field1: 20; Text Field2: 40
part A pins: 1 I0 (in), 2 I1 (in), 12 ~{O} (oc), 13 I2 (in)
part B pins: 3 I0 (in), 4 I1 (in), 5 I2 (in), 6 ~{O} (oc)
part C pins: 8 ~{O} (oc), 9 I0 (in), 10 I1 (in), 11 I2 (in)
part A text: &
part B text: &
part C text: &

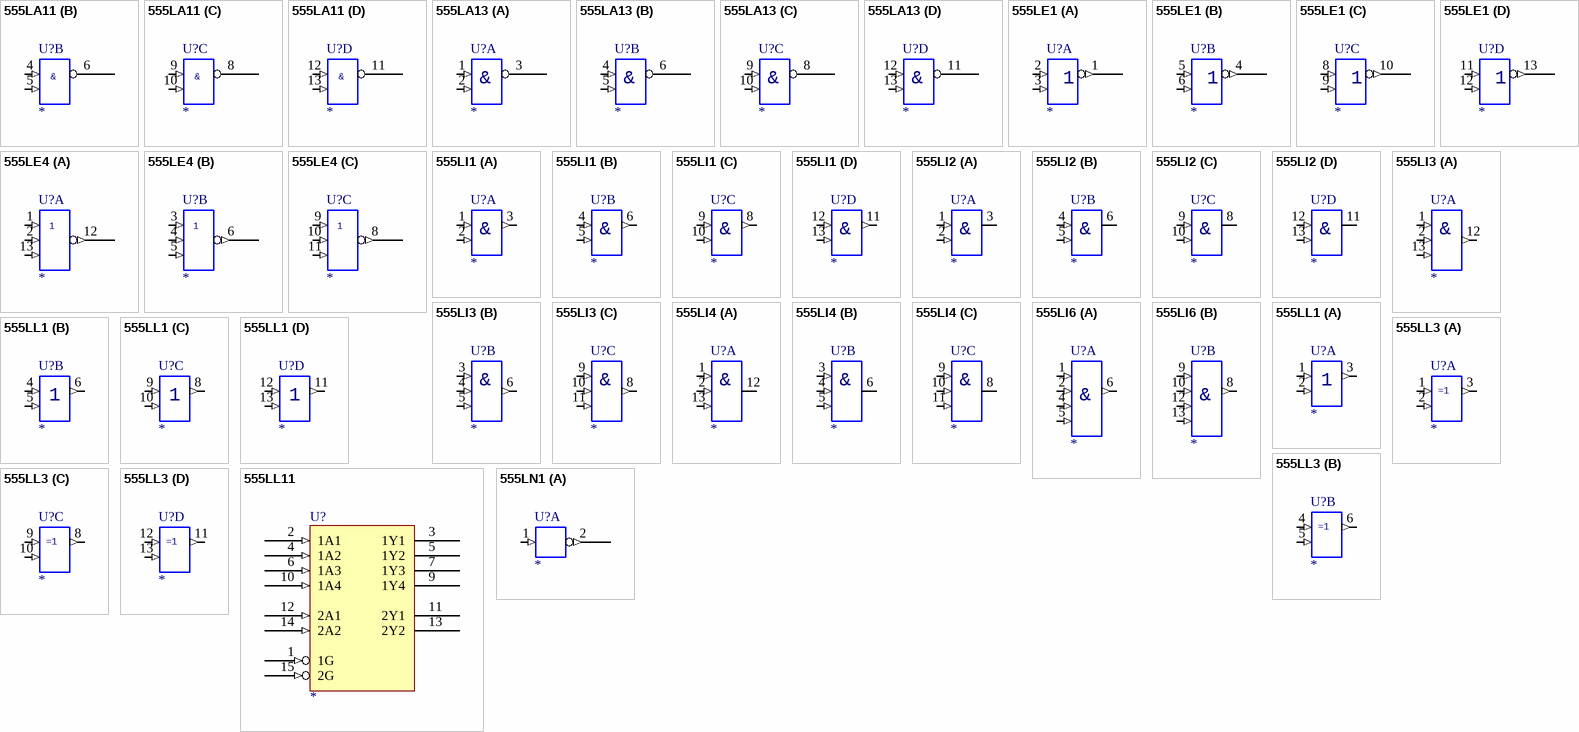
[diagram p4: symbols 555LA11 to 555LN1]

## 555LA11
designator U?
Text Field1: 20; Text Field2: 30
part A pins: 1 I0 (in), 2 I1 (in), 3 ~{O} (oc)
part B pins: 4 I0 (in), 5 I1 (in), 6 ~{O} (oc)
part C pins: 8 ~{O} (oc), 9 I0 (in), 10 I1 (in)
part D pins: 11 ~{O} (oc), 12 I0 (in), 13 I1 (in)
part A text: &
part B text: &
part C text: &
part D text: &

## 555LA13
designator U?
Text Field1: 20; Text Field2: 30
footprint 14DIP300
part A pins: 1 I0 (in), 2 I1 (in), 3 ~{O} (oc), 7 ~{O} (power) hidden to GND, 14 +5 V hidden to +5 V
part B pins: 4 I0 (in), 5 I1 (in), 6 ~{O} (oc)
part C pins: 8 ~{O} (oc), 9 I0 (in), 10 I1 (in)
part D pins: 11 ~{O} (oc), 12 I0 (in), 13 I1 (in)
part A text: &
part B text: &
part C text: &
part D text: &

## 555LE1
designator U?
Text Field1: 20; Text Field2: 30
part A pins: 1 OUT (out), 2 I0 (in), 3 IN (in), 7 GND (power) hidden to GND, 14 +5V (power) hidden to +5V
part B pins: 4 OUT (out), 5 I0 (in), 6 IN (in), 7 GND (power) hidden to GND, 14 +5V (power) hidden to +5V
part C pins: 7 GND (power) hidden to GND, 8 I0 (in), 9 IN (in), 10 OUT (out), 14 +5V (power) hidden to +5V
part D pins: 7 GND (power) hidden to GND, 11 I0 (in), 12 IN (in), 13 OUT (out), 14 +5V (power) hidden to +5V

## 555LE4
designator U?
Text Field1: 20; Text Field2: 40
part A pins: 1 I0 (in), 2 I1 (in), 7 GND (power) hidden to GND, 12 ~{O} (out), 13 I2 (in), 14 +5V (power) hidden to +5V
part B pins: 3 I0 (in), 4 I1 (in), 5 I2 (in), 6 ~{O} (out), 7 GND (power) hidden to GND, 14 +5V (power) hidden to +5V
part C pins: 7 GND (power) hidden to GND, 8 ~{O} (out), 9 I0 (in), 10 I1 (in), 11 I2 (in), 14 +5V (power) hidden to +5V

## 555LI1
designator U?
Text Field1: 20; Text Field2: 30
part A pins: 1 I0 (in), 2 I1 (in), 3 & (out), 7 GND (power) hidden to GND, 14 +5V (power) hidden to +5V
part B pins: 4 I0 (in), 5 I1 (in), 6 & (out), 7 GND (power) hidden to GND, 14 +5V (power) hidden to +5V
part C pins: 7 GND (power) hidden to GND, 8 & (out), 9 I0 (in), 10 I1 (in), 14 +5V (power) hidden to +5V
part D pins: 7 GND (power) hidden to GND, 11 & (out), 12 I0 (in), 13 I1 (in), 14 +5V (power) hidden to +5V

## 555LI2
designator U?
Text Field1: 20; Text Field2: 30
part A pins: 1 I0 (in), 2 I1 (in), 3 O (oc), 7 GND (power) hidden to GND, 14 +5V (power) hidden to +5V
part B pins: 4 I0 (in), 5 I1 (in), 6 O (oc), 7 GND (power) hidden to GND, 14 +5V (power) hidden to +5V
part C pins: 7 GND (power) hidden to GND, 8 O (oc), 9 I0 (in), 10 I1 (in), 14 +5V (power) hidden to +5V
part D pins: 7 GND (power) hidden to GND, 11 O (oc), 12 I0 (in), 13 I1 (in), 14 +5V (power) hidden to +5V
part A text: &
part B text: &
part C text: &
part D text: &

## 555LI3
designator U?
Text Field1: 20; Text Field2: 40
part A pins: 1 I0 (in), 2 I1 (in), 7 GND (power) hidden to GND, 12 O (out), 13 I2 (in), 14 +5V (power) hidden to +5V
part B pins: 3 I0 (in), 4 I1 (in), 5 I2 (in), 6 O (out), 7 GND (power) hidden to GND, 14 +5V (power) hidden to +5V
part C pins: 7 GND (power) hidden to GND, 8 O (out), 9 I0 (in), 10 I1 (in), 11 I2 (in), 14 +5V (power) hidden to +5V
part A text: &
part B text: &
part C text: &

## 555LI4
designator U?
Text Field1: 20; Text Field2: 40
part A pins: 1 I0 (in), 2 I1 (in), 12 O (oc), 13 I2 (in)
part B pins: 3 I0 (in), 4 I1 (in), 5 I2 (in), 6 O (oc)
part C pins: 8 O (oc), 9 I0 (in), 10 I1 (in), 11 I2 (in)
part A text: &
part B text: &
part C text: &

## 555LI6
designator U?
Text Field1: 20; Text Field2: 50
part A pins: 1 I0 (in), 2 I1 (in), 4 I2 (in), 5 I3 (in), 6 O (out)
part B pins: 8 O (out), 9 I0 (in), 10 I1 (in), 12 I2 (in), 13 I3 (in)
part A text: &
part B text: &

## 555LL1
designator U?
Text Field1: 20; Text Field2: 30
part A pins: 1 I0 (in), 2 IN (in), 3 OUT (out), 7 GND (power) hidden to GND, 14 +5V (power) hidden to +5V
part B pins: 4 I0 (in), 5 IN (in), 6 OUT (out), 7 GND (power) hidden to GND, 14 +5V (power) hidden to +5V
part C pins: 7 GND (power) hidden to GND, 8 OUT (out), 9 I0 (in), 10 IN (in), 14 +5V (power) hidden to +5V
part D pins: 7 GND (power) hidden to GND, 11 OUT (out), 12 I0 (in), 13 IN (in), 14 +5V (power) hidden to +5V

## 555LL3
designator U?
Text Field1: 20; Text Field2: 30
part A pins: 1 I0 (in), 2 (in), 3 (out), 7 GND (power) hidden to GND, 14 +5V (power) hidden to +5V
part B pins: 4 I0 (in), 5 2 (in), 6 3 (out), 7 GND (power) hidden to GND, 14 +5V (power) hidden to +5V
part C pins: 7 GND (power) hidden to GND, 8 3 (out), 9 I0 (in), 10 2 (in), 14 +5V (power) hidden to +5V
part D pins: 7 GND (power) hidden to GND, 11 3 (out), 12 I0 (in), 13 2 (in), 14 +5V (power) hidden to +5V

## 555LL11
designator U?
Text Field1: 70; Text Field2: 110
pins: 1 1G (in), 2 1A1 (in), 3 1Y1 (hiz), 4 1A2 (in), 5 1Y2 (hiz), 6 1A3 (in), 7 1Y3 (hiz), 9 1Y4 (hiz), 10 1A4 (in), 11 2Y1 (hiz), 12 2A1 (in), 13 2Y2 (hiz), 14 2A2 (in), 15 2G (in)

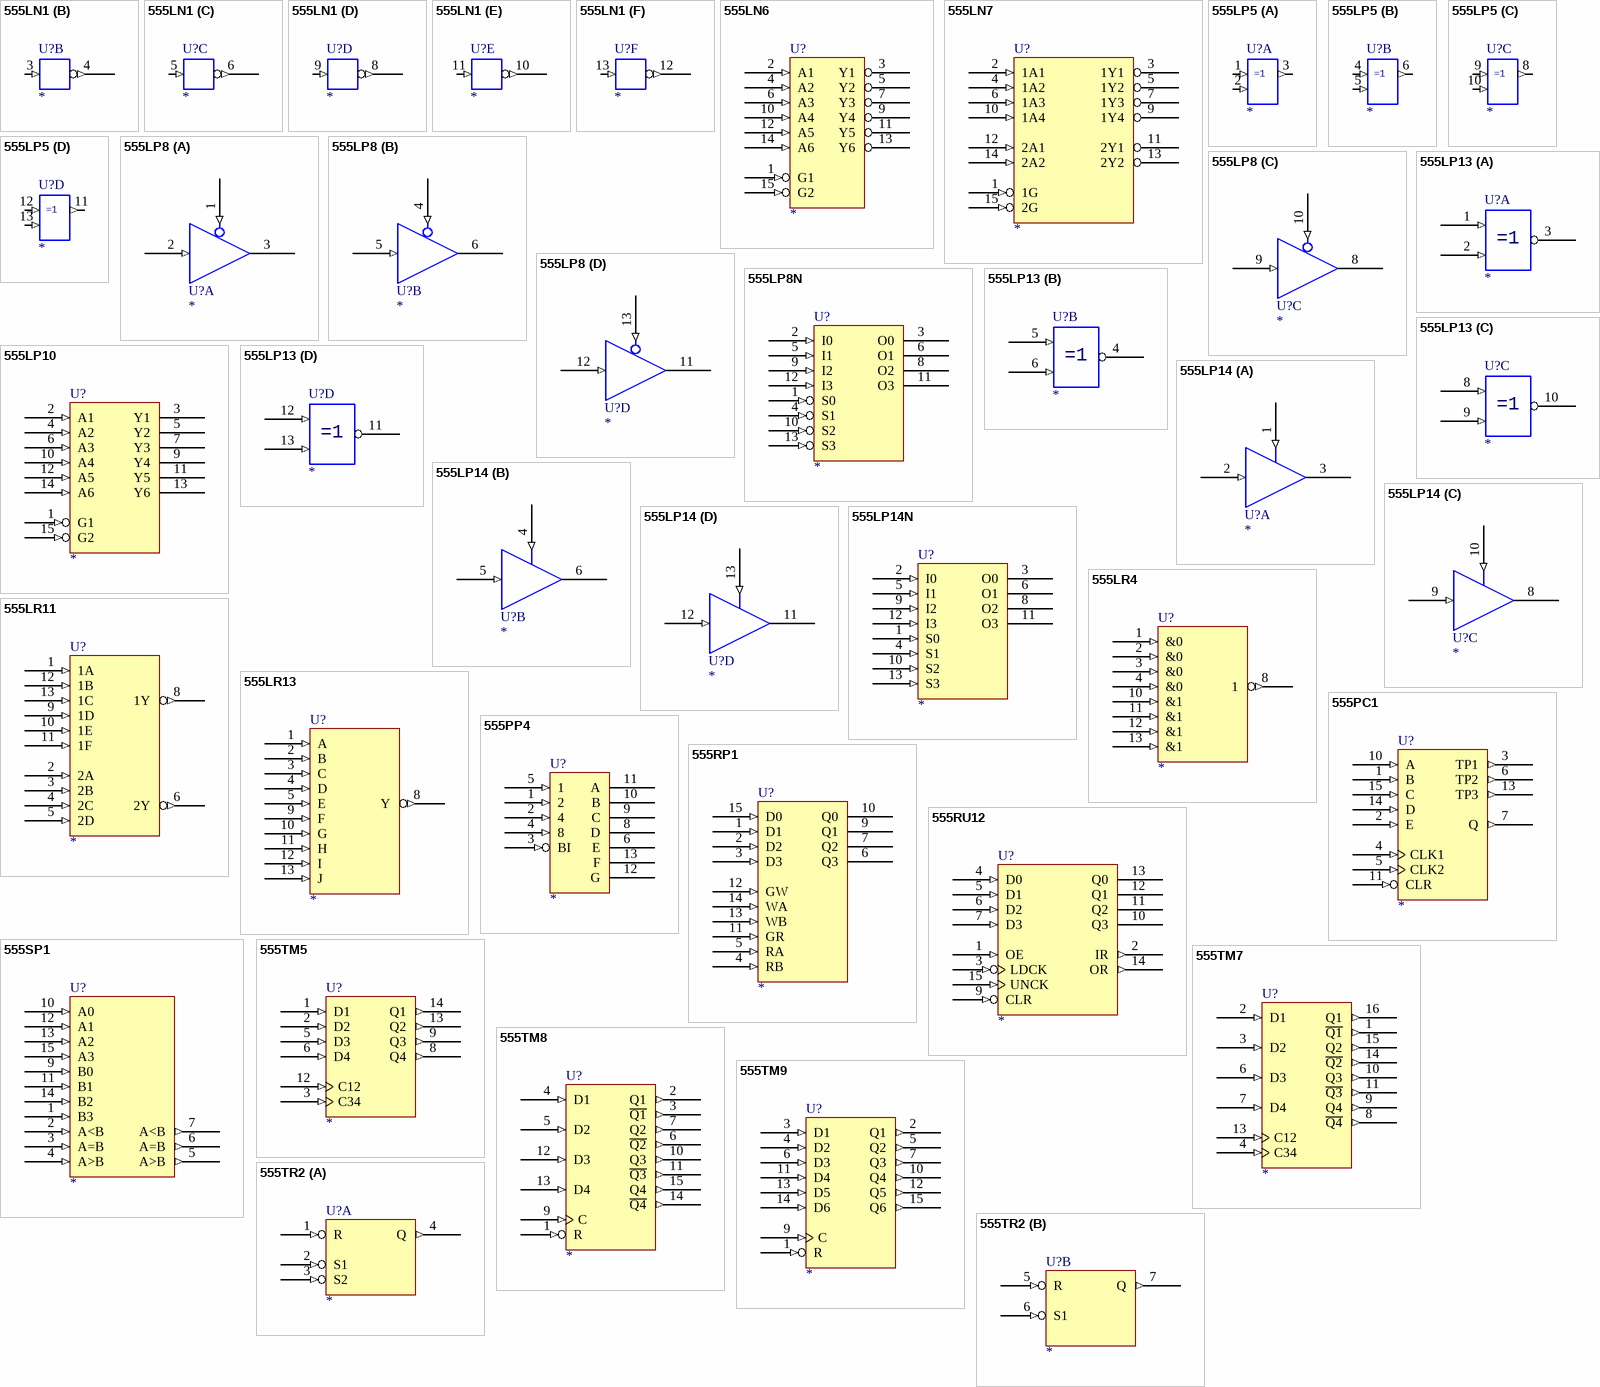
[diagram p5: symbols 555LN1 to 555TR2]

## 555LN1
designator U?
Text Field1: 20; Text Field2: 20
part A pins: 1 I0 (in), 2 ~{O} (out), 7 GND (power) hidden to GND, 14 +5V (power) hidden to +5V
part B pins: 3 I0 (in), 4 ~{O} (out), 7 GND (power) hidden to GND, 14 +5V (power) hidden to +5V
part C pins: 5 I0 (in), 6 ~{O} (out), 7 GND (power) hidden to GND, 14 +5V (power) hidden to +5V
part D pins: 7 GND (power) hidden to GND, 8 ~{O} (out), 9 I0 (in), 14 +5V (power) hidden to +5V
part E pins: 7 GND (power) hidden to GND, 10 ~{O} (out), 11 I0 (in), 14 +5V (power) hidden to +5V
part F pins: 7 GND (power) hidden to GND, 12 ~{O} (out), 13 I0 (in), 14 +5V (power) hidden to +5V

## 555LN6
designator U?
Text Field1: 50; Text Field2: 100
pins: 1 G1 (in), 2 A1 (in), 3 Y1 (hiz), 4 A2 (in), 5 Y2 (hiz), 6 A3 (in), 7 Y3 (hiz), 8 GND (power) hidden to GND, 9 Y4 (hiz), 10 A4 (in), 11 Y5 (hiz), 12 A5 (in), 13 Y6 (hiz), 14 A6 (in), 15 G2 (in), 16 +5V (power) hidden to +5V

## 555LN7
designator U?
Text Field1: 80; Text Field2: 110
pins: 1 1G (in), 2 1A1 (in), 3 1Y1 (hiz), 4 1A2 (in), 5 1Y2 (hiz), 6 1A3 (in), 7 1Y3 (hiz), 9 1Y4 (hiz), 10 1A4 (in), 11 2Y1 (hiz), 12 2A1 (in), 13 2Y2 (hiz), 14 2A2 (in), 15 2G (in)

## 555LP5
designator U?
Text Field1: 20; Text Field2: 30
part A pins: 1 I0 (in), 2 I1 (in), 3 OUT (out), 7 GND (power) hidden to GND, 14 +5V (power) hidden to +5V
part B pins: 4 I0 (in), 5 I1 (in), 6 OUT (out), 7 GND (power) hidden to GND, 14 +5V (power) hidden to +5V
part C pins: 7 GND (power) hidden to GND, 8 OUT (out), 9 I0 (in), 10 I1 (in), 14 +5V (power) hidden to +5V
part D pins: 7 GND (power) hidden to GND, 11 OUT (out), 12 I0 (in), 13 I1 (in), 14 +5V (power) hidden to +5V

## 555LP8
designator U?
Text Field1: 40; Text Field2: 40
part A pins: 1 OE (in), 2 I (in), 3 O (hiz)
part B pins: 4 OE (in), 5 I (in), 6 O (hiz)
part C pins: 8 O (hiz), 9 I (in), 10 OE (in)
part D pins: 11 O (hiz), 12 I (in), 13 OE (in)
1 alternate drawing of the same symbol

## 555LP8N
designator U?
Text Field1: 60; Text Field2: 90
pins: 1 S0 (in), 2 I0 (in), 3 O0 (hiz), 4 S1 (in), 5 I1 (in), 6 O1 (hiz), 8 O2 (hiz), 9 I2 (in), 10 S2 (in), 11 O3 (hiz), 12 I3 (in), 13 S3 (in)

## 555LP10
designator U?
Text Field1: 60; Text Field2: 100
pins: 1 G1 (in), 2 A1 (in), 3 Y1 (hiz), 4 A2 (in), 5 Y2 (hiz), 6 A3 (in), 7 Y3 (hiz), 9 Y4 (hiz), 10 A4 (in), 11 Y5 (hiz), 12 A5 (in), 13 Y6 (hiz), 14 A6 (in), 15 G2 (in)

## 555LP13
designator U?
Text Field1: 30; Text Field2: 40
part A pins: 1 I0 (in), 2 I1 (in), 3 O (oc)
part B pins: 4 O (oc), 5 I0 (in), 6 I1 (in)
part C pins: 8 I0 (in), 9 I1 (in), 10 O (oc)
part D pins: 11 O (oc), 12 I0 (in), 13 I1 (in)

## 555LP14
designator U?
Text Field1: 40; Text Field2: 40
part A pins: 1 OE (in), 2 I (in), 3 O (hiz)
part B pins: 4 OE (in), 5 I (in), 6 O (hiz)
part C pins: 8 O (hiz), 9 I (in), 10 OE (in)
part D pins: 11 O (hiz), 12 I (in), 13 OE (in)
1 alternate drawing of the same symbol

## 555LP14N
designator U?
Text Field1: 60; Text Field2: 90
pins: 1 S0 (in), 2 I0 (in), 3 O0 (hiz), 4 S1 (in), 5 I1 (in), 6 O1 (hiz), 8 O2 (hiz), 9 I2 (in), 10 S2 (in), 11 O3 (hiz), 12 I3 (in), 13 S3 (in)

## 555LR4
designator U?
Text Field1: 60; Text Field2: 90
pins: 1 &0 (in), 2 &0 (in), 3 &0 (in), 4 &0 (in), 8 1 (out), 10 &1 (in), 11 &1 (in), 12 &1 (in), 13 &1 (in)

## 555LR11
designator U?
Text Field1: 60; Text Field2: 120
pins: 1 1A (in), 2 2A (in), 3 2B (in), 4 2C (in), 5 2D (in), 6 2Y (out), 8 1Y (out), 9 1D (in), 10 1E (in), 11 1F (in), 12 1B (in), 13 1C (in)

## 555LR13
designator U?
Text Field1: 60; Text Field2: 110
pins: 1 A (in), 2 B (in), 3 C (in), 4 D (in), 5 E (in), 8 Y (out), 9 F (in), 10 G (in), 11 H (in), 12 I (in), 13 J (in)

## 555PC1
designator U?
Text Field1: 60; Text Field2: 100
pins: 1 B (in), 2 E (in), 3 TP1 (out), 4 CLK1 (in), 5 CLK2 (in), 6 TP2 (out), 7 Q (out), 10 A (in), 11 CLR (in), 13 TP3 (out), 14 D (in), 15 C (in)

## 555PP4
designator U?
Text Field1: 40; Text Field2: 80
pins: 1 2 (in), 2 4 (in), 3 BI (in), 4 8 (in), 5 1 (in), 6 E (oc), 8 D (oc), 9 C (oc), 10 B (oc), 11 A (oc), 12 G (oc), 13 F (oc)

## 555RP1
designator U?
Text Field1: 60; Text Field2: 120
pins: 1 D1 (in), 2 D2 (in), 3 D3 (in), 4 RB (in), 5 RA (in), 6 Q3 (oc), 7 Q2 (oc), 9 Q1 (oc), 10 Q0 (oc), 11 GR (in), 12 GW (in), 13 WB (in), 14 WA (in), 15 D0 (in)

## 555RU12
designator U?
Text Field1: 80; Text Field2: 100
pins: 1 OE (in), 2 IR (out), 3 LDCK (in), 4 D0 (in), 5 D1 (in), 6 D2 (in), 7 D3 (in), 9 CLR (in), 10 Q3 (hiz), 11 Q2 (hiz), 12 Q1 (hiz), 13 Q0 (hiz), 14 OR (out), 15 UNCK (in)

## 555SP1
designator U?
Text Field1: 70; Text Field2: 120
pins: 1 B3 (in), 2 A<B (in), 3 A=B (in), 4 A>B (in), 5 A>B (out), 6 A=B (out), 7 A<B (out), 9 B0 (in), 10 A0 (in), 11 B1 (in), 12 A1 (in), 13 A2 (in), 14 B2 (in), 15 A3 (in)

## 555TM5
designator U?
Text Field1: 60; Text Field2: 80
pins: 1 D1 (in), 2 D2 (in), 3 C34 (in), 5 D3 (in), 6 D4 (in), 8 Q4 (out), 9 Q3 (out), 12 C12 (in), 13 Q2 (out), 14 Q1 (out)

## 555TM7
designator U?
Text Field1: 60; Text Field2: 110
pins: 1 ~{Q1} (out), 2 D1 (in), 3 D2 (in), 4 C34 (in), 6 D3 (in), 7 D4 (in), 8 ~{Q4} (out), 9 Q4 (out), 10 Q3 (out), 11 ~{Q3} (out), 13 C12 (in), 14 ~{Q2} (out), 15 Q2 (out), 16 Q1 (out)

## 555TM8
designator U?
Text Field1: 60; Text Field2: 110
pins: 1 R (in), 2 Q1 (out), 3 ~{Q1} (out), 4 D1 (in), 5 D2 (in), 6 ~{Q2} (out), 7 Q2 (out), 8 GND (power) hidden to GND, 9 C (in), 10 Q3 (out), 11 ~{Q3} (out), 12 D3 (in), 13 D4 (in), 14 ~{Q4} (out), 15 Q4 (out), 16 +5V (power) hidden to +5V

## 555TM9
designator U?
Text Field1: 60; Text Field2: 100
pins: 1 R (in), 2 Q1 (out), 3 D1 (in), 4 D2 (in), 5 Q2 (out), 6 D3 (in), 7 Q3 (out), 8 GND (power) hidden to GND, 9 C (in), 10 Q4 (out), 11 D4 (in), 12 Q5 (out), 13 D5 (in), 14 D6 (in), 15 Q6 (out), 16 +5V (power) hidden to +5V

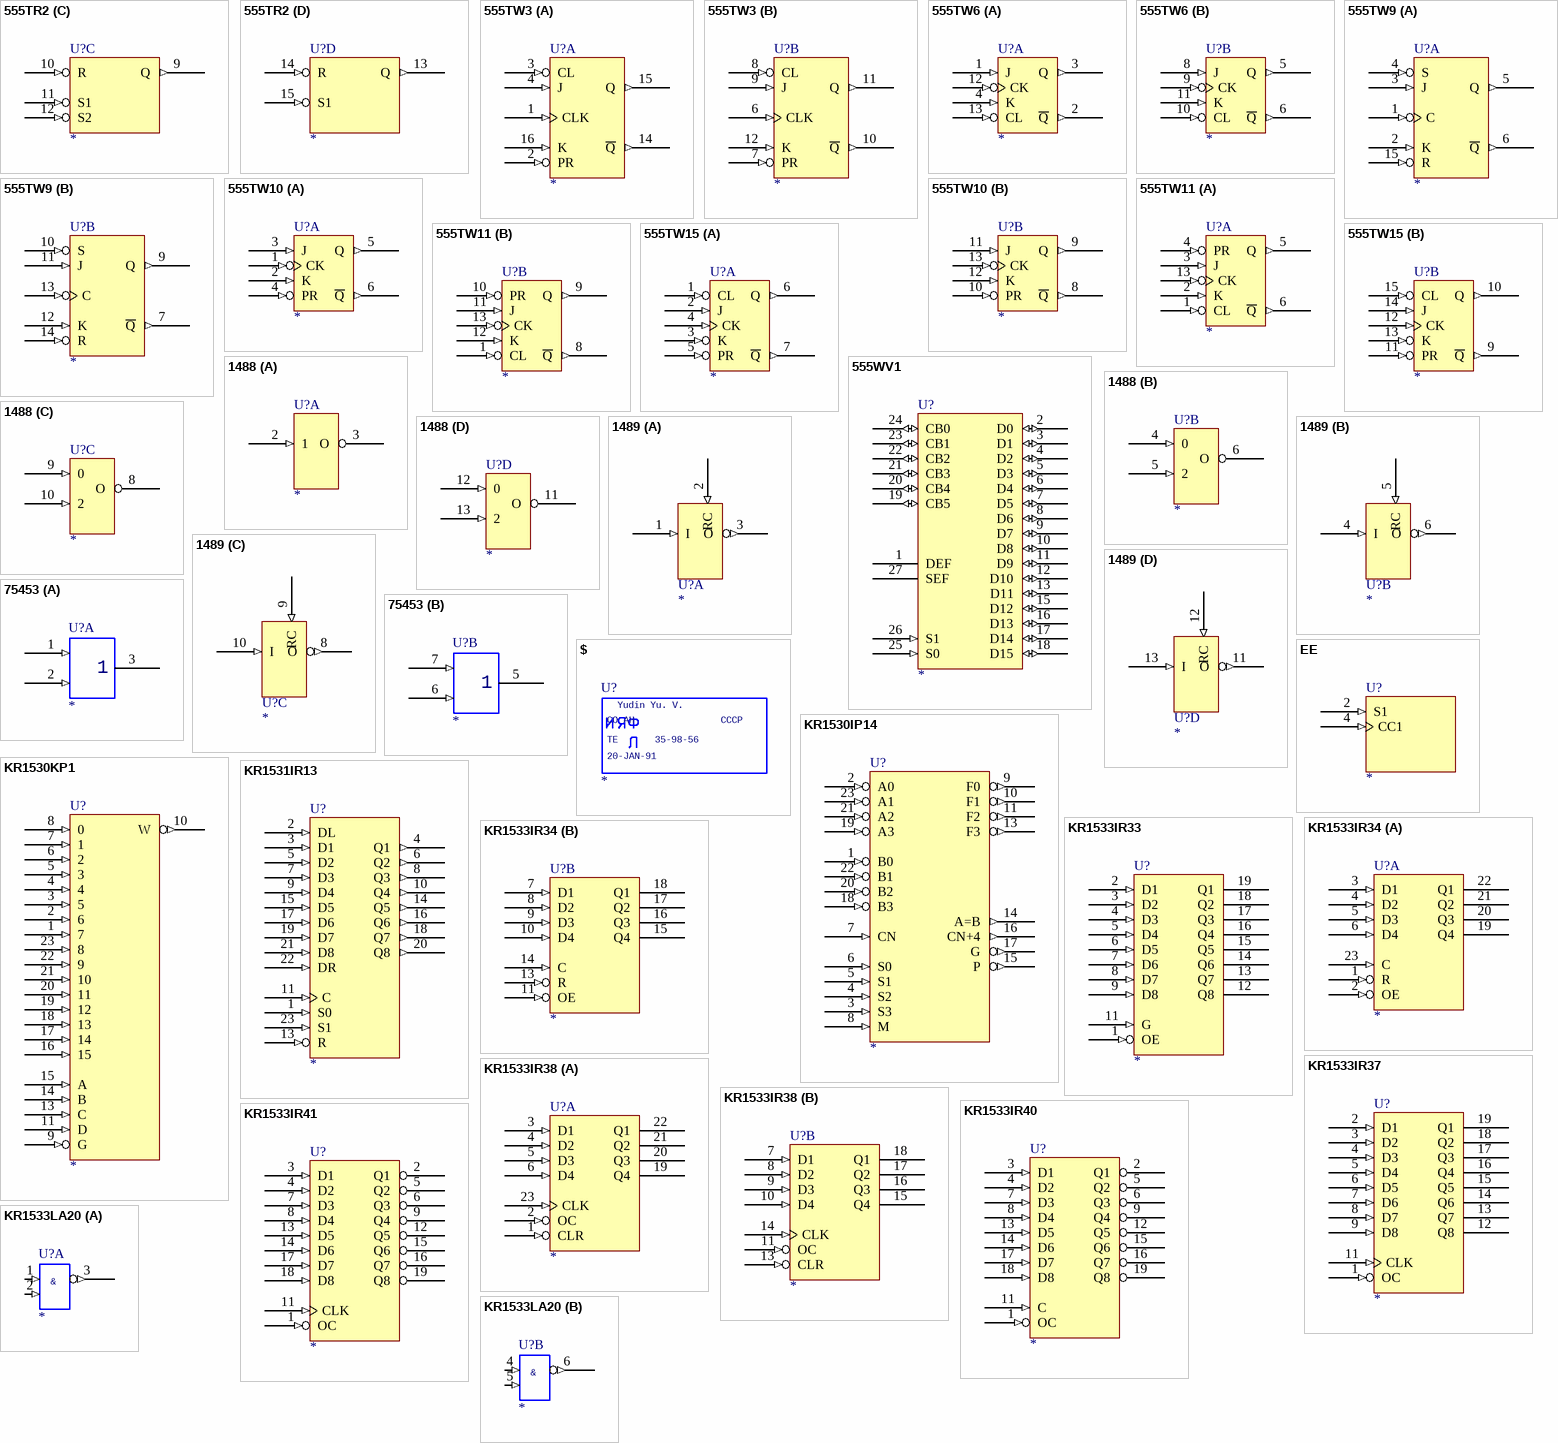
[diagram p6: symbols 555TR2 to KR1533LA20]

## 555TR2
designator U?
Text Field1: 60; Text Field2: 50
part A pins: 1 R (in), 2 S1 (in), 3 S2 (in), 4 Q (out), 8 GNDTTL (power) hidden to GNDTTL, 16 VTTL (power) hidden to VTTL
part B pins: 5 R (in), 6 S1 (in), 7 Q (out)
part C pins: 9 Q (out), 10 R (in), 11 S1 (in), 12 S2 (in)
part D pins: 13 Q (out), 14 R (in), 15 S1 (in)

## 555TW3
designator U?
Text Field1: 50; Text Field2: 80
part A pins: 1 CLK (in), 2 PR (in), 3 CL (in), 4 J (in), 14 ~{Q} (out), 15 Q (out), 16 K (in)
part B pins: 6 CLK (in), 7 PR (in), 8 CL (in), 9 J (in), 10 ~{Q} (out), 11 Q (out), 12 K (in)

## 555TW6
designator U?
Text Field1: 40; Text Field2: 50
part A pins: 1 J (in), 2 ~{Q} (out), 3 Q (out), 4 K (in), 12 CK (in), 13 CL (in)
part B pins: 5 Q (out), 6 ~{Q} (out), 8 J (in), 9 CK (in), 10 CL (in), 11 K (in)

## 555TW9
designator U?
Text Field1: 50; Text Field2: 80
part A pins: 1 C (in), 2 K (in), 3 J (in), 4 S (in), 5 Q (out), 6 ~{Q} (out), 15 R (in)
part B pins: 7 ~{Q} (out), 9 Q (out), 10 S (in), 11 J (in), 12 K (in), 13 C (in), 14 R (in)

## 555TW10
designator U?
Text Field1: 40; Text Field2: 50
part A pins: 1 CK (in), 2 K (in), 3 J (in), 4 PR (in), 5 Q (out), 6 ~{Q} (out)
part B pins: 8 ~{Q} (out), 9 Q (out), 10 PR (in), 11 J (in), 12 K (in), 13 CK (in)

## 555TW11
designator U?
Text Field1: 40; Text Field2: 60
part A pins: 1 CL (in), 2 K (in), 3 J (in), 4 PR (in), 5 Q (out), 6 ~{Q} (out), 13 CK (in)
part B pins: 1 CL (in), 8 ~{Q} (out), 9 Q (out), 10 PR (in), 11 J (in), 12 K (in), 13 CK (in)

## 555TW15
designator U?
Text Field1: 40; Text Field2: 60
part A pins: 1 CL (in), 2 J (in), 3 K (in), 4 CK (in), 5 PR (in), 6 Q (out), 7 ~{Q} (out)
part B pins: 9 ~{Q} (out), 10 Q (out), 11 PR (in), 12 CK (in), 13 K (in), 14 J (in), 15 CL (in)

## 555WV1
designator U?
Text Field1: 70; Text Field2: 170
pins: 1 DEF (hiz), 2 D0 (io), 3 D1 (io), 4 D2 (io), 5 D3 (io), 6 D4 (io), 7 D5 (io), 8 D6 (io), 9 D7 (io), 10 D8 (io), 11 D9 (io), 12 D10 (io), 13 D11 (io), 15 D12 (io), 16 D13 (io), 17 D14 (io), 18 D15 (io), 19 CB5 (io), 20 CB4 (io), 21 CB3 (io), 22 CB2 (io), 23 CB1 (io), 24 CB0 (io), 25 S0 (in), 26 S1 (in), 27 SEF (hiz)

## 1488
designator U?
Text Field1: 30; Text Field2: 50
part A pins: 2 1 (in), 3 O (oc)
part B pins: 4 0 (in), 5 2 (in), 6 O (oc)
part C pins: 8 O (oc), 9 0 (in), 10 2 (in)
part D pins: 11 O (oc), 12 0 (in), 13 2 (in)

## 1489
designator U?
Text Field1: 30; Text Field2: 50
part A pins: 1 I (in), 2 RC (in), 3 O (out)
part B pins: 4 I (in), 5 RC (in), 6 O (out)
part C pins: 8 O (out), 9 RC (in), 10 I (in)
part D pins: 11 O (out), 12 RC (in), 13 I (in)

## 75453
designator U?
Text Field1: 30; Text Field2: 40
part A pins: 1 I0 (in), 2 I1 (in), 3 O (oc)
part B pins: 5 O (oc), 6 I1 (in), 7 I0 (in)

## $
designator U?
Text Field1: 110; Text Field2: 50
text: Yudin Yu. V.; CO AH; CCCP; TE; 35-98-56; 20-JAN-91

## EE
designator U?
Text Field1: 60; Text Field2: 50
pins: 2 S1 (in), 4 CC1 (in)

## KR1530IP14
designator U?
Text Field1: 80; Text Field2: 180
pins: 1 B0 (in), 2 A0 (in), 3 S3 (in), 4 S2 (in), 5 S1 (in), 6 S0 (in), 7 CN (in), 8 M (in), 9 F0 (out), 10 F1 (out), 11 F2 (out), 13 F3 (out), 14 A=B (out), 15 P (out), 16 CN+4 (out), 17 G (out), 18 B3 (in), 19 A3 (in), 20 B2 (in), 21 A2 (in), 22 B1 (in), 23 A1 (in)

## KR1530KP1
designator U?
Text Field1: 60; Text Field2: 230
pins: 1 7 (in), 2 6 (in), 3 5 (in), 4 (in), 5 3 (in), 6 2 (in), 7 1 (in), 8 0 (in), 9 G (in), 10 W (out), 11 D (in), 13 C (in), 14 B (in), 15 A (in), 16 15 (in), 17 14 (in), 18 13 (in), 19 12 (in), 20 11 (in), 21 10 (in), 22 9 (in), 23 8 (in)

## KR1531IR13
designator U?
Text Field1: 60; Text Field2: 160
pins: 1 S0 (in), 2 DL (in), 3 D1 (in), 4 Q1 (out), 5 D2 (in), 6 Q2 (out), 7 D3 (in), 8 Q3 (out), 9 D4 (in), 10 Q4 (out), 11 C (in), 13 R (in), 14 Q5 (out), 15 D5 (in), 16 Q6 (out), 17 D6 (in), 18 Q7 (out), 19 D7 (in), 20 Q8 (out), 21 D8 (in), 22 DR (in), 23 S1 (in)

## KR1533IR33
designator U?
Text Field1: 60; Text Field2: 120
pins: 1 OE (in), 2 D1 (in), 3 D2 (in), 4 D3 (in), 5 D4 (in), 6 D5 (in), 7 D6 (in), 8 D7 (in), 9 D8 (in), 10 GND (power) hidden to GND, 11 G (in), 12 Q8 (hiz), 13 Q7 (hiz), 14 Q6 (hiz), 15 Q5 (hiz), 16 Q4 (hiz), 17 Q3 (hiz), 18 Q2 (hiz), 19 Q1 (hiz), 20 +5V (power) hidden to +5V

## KR1533IR34
designator U?
Text Field1: 60; Text Field2: 90
part A pins: 1 R (in), 2 OE (in), 3 D1 (in), 4 D2 (in), 5 D3 (in), 6 D4 (in), 19 Q4 (hiz), 20 Q3 (hiz), 21 Q2 (hiz), 22 Q1 (hiz), 23 C (in)
part B pins: 7 D1 (in), 8 D2 (in), 9 D3 (in), 10 D4 (in), 11 OE (in), 13 R (in), 14 C (in), 15 Q4 (hiz), 16 Q3 (hiz), 17 Q2 (hiz), 18 Q1 (hiz)

## KR1533IR37
designator U?
Text Field1: 60; Text Field2: 120
pins: 1 OC (in), 2 D1 (in), 3 D2 (in), 4 D3 (in), 5 D4 (in), 6 D5 (in), 7 D6 (in), 8 D7 (in), 9 D8 (in), 11 CLK (in), 12 Q8 (hiz), 13 Q7 (hiz), 14 Q6 (hiz), 15 Q5 (hiz), 16 Q4 (hiz), 17 Q3 (hiz), 18 Q2 (hiz), 19 Q1 (hiz)

## KR1533IR38
designator U?
Text Field1: 60; Text Field2: 90
part A pins: 1 CLR (in), 2 OC (in), 3 D1 (in), 4 D2 (in), 5 D3 (in), 6 D4 (in), 12 GND (power) hidden to GND, 19 Q4 (hiz), 20 Q3 (hiz), 21 Q2 (hiz), 22 Q1 (hiz), 23 CLK (in), 24 VCC (power) hidden to VCC
part B pins: 7 D1 (in), 8 D2 (in), 9 D3 (in), 10 D4 (in), 11 OC (in), 12 GND (power) hidden to GND, 13 CLR (in), 14 CLK (in), 15 Q4 (hiz), 16 Q3 (hiz), 17 Q2 (hiz), 18 Q1 (hiz), 24 VCC (power) hidden to VCC

## KR1533IR40
designator U?
Text Field1: 60; Text Field2: 120
pins: 1 OC (in), 2 Q1 (hiz), 3 D1 (in), 4 D2 (in), 5 Q2 (hiz), 6 Q3 (hiz), 7 D3 (in), 8 D4 (in), 9 Q4 (hiz), 11 C (in), 12 Q5 (hiz), 13 D5 (in), 14 D6 (in), 15 Q6 (hiz), 16 Q7 (hiz), 17 D7 (in), 18 D8 (in), 19 Q8 (hiz)

## KR1533IR41
designator U?
Text Field1: 60; Text Field2: 120
pins: 1 OC (in), 2 Q1 (hiz), 3 D1 (in), 4 D2 (in), 5 Q2 (hiz), 6 Q3 (hiz), 7 D3 (in), 8 D4 (in), 9 Q4 (hiz), 11 CLK (in), 12 Q5 (hiz), 13 D5 (in), 14 D6 (in), 15 Q6 (hiz), 16 Q7 (hiz), 17 D7 (in), 18 D8 (in), 19 Q8 (hiz)

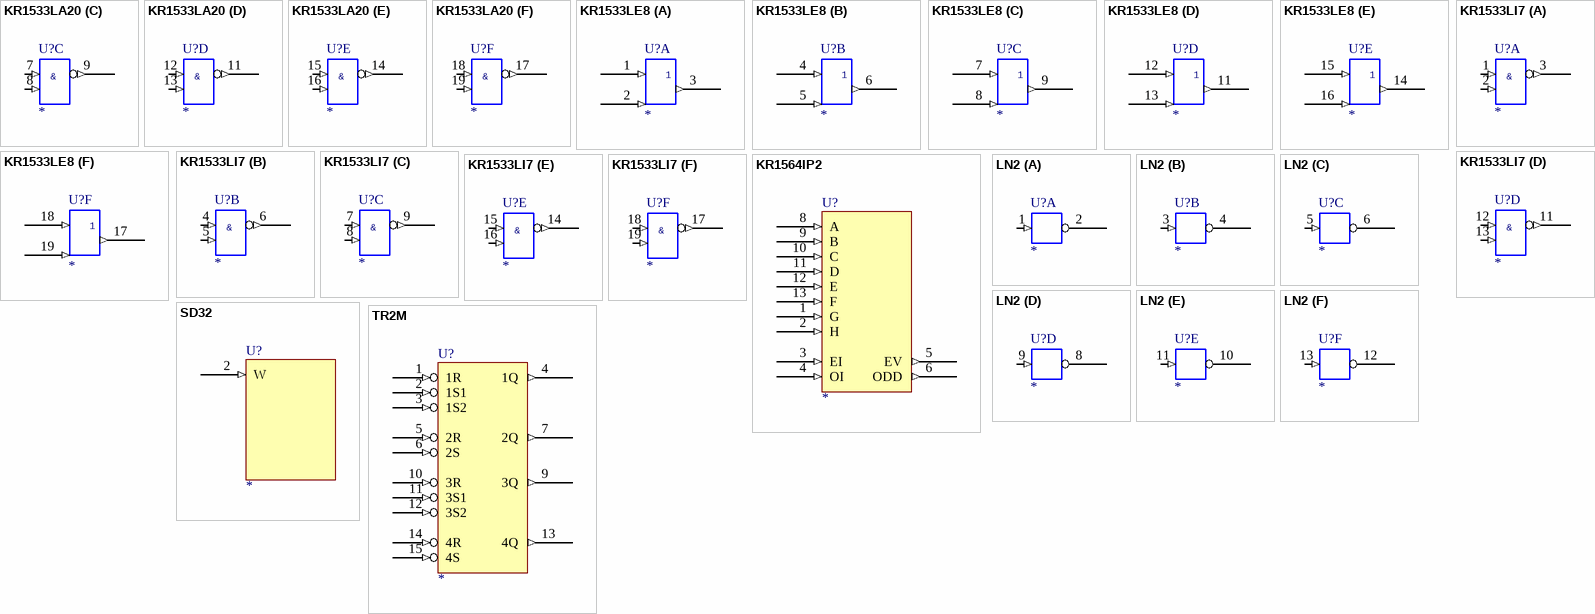
[diagram p7: symbols KR1533LA20 to TR2M]

## KR1533LA20
designator U?
Text Field1: 20; Text Field2: 30
part A pins: 1 I0 (in), 2 I1 (in), 3 ~{O} (out)
part B pins: 4 I0 (in), 5 I1 (in), 6 ~{O} (out)
part C pins: 7 I0 (in), 8 I1 (in), 9 ~{O} (out)
part D pins: 11 ~{O} (out), 12 I0 (in), 13 I1 (in)
part E pins: 14 ~{O} (out), 15 I0 (in), 16 I1 (in)
part F pins: 17 ~{O} (out), 18 I0 (in), 19 I1 (in)
part A text: &
part B text: &
part C text: &
part D text: &
part E text: &
part F text: &

## KR1533LE8
designator U?
Text Field1: 20; Text Field2: 30
part A pins: 1 I0 (in), 2 I1 (in), 3 ~{O} (out)
part B pins: 4 I0 (in), 5 I1 (in), 6 ~{O} (out)
part C pins: 7 I0 (in), 8 I1 (in), 9 ~{O} (out)
part D pins: 11 ~{O} (out), 12 I0 (in), 13 I1 (in)
part E pins: 14 ~{O} (out), 15 I0 (in), 16 I1 (in)
part F pins: 17 ~{O} (out), 18 I0 (in), 19 I1 (in)

## KR1533LI7
designator U?
Text Field1: 20; Text Field2: 30
part A pins: 1 I0 (in), 2 I1 (in), 3 O (out)
part B pins: 4 I0 (in), 5 I1 (in), 6 O (out)
part C pins: 7 I0 (in), 8 I1 (in), 9 O (out)
part D pins: 11 O (out), 12 I0 (in), 13 I1 (in)
part E pins: 14 O (out), 15 I0 (in), 16 I1 (in)
part F pins: 17 O (out), 18 I0 (in), 19 I1 (in)
part A text: &
part B text: &
part C text: &
part D text: &
part E text: &
part F text: &

## KR1564IP2
designator U?
Text Field1: 60; Text Field2: 120
pins: 1 G (in), 2 H (in), 3 EI (in), 4 OI (in), 5 EV (out), 6 ODD (out), 8 A (in), 9 B (in), 10 C (in), 11 D (in), 12 E (in), 13 F (in)

## LN2
designator U?
Text Field1: 20; Text Field2: 20
part A pins: 1 I0 (in), 2 ~{O} (oc), 7 GND (power) hidden to GND, 14 +5V (power) hidden to +5V
part B pins: 3 I0 (in), 4 ~{O} (oc), 7 GND (power) hidden to GND, 14 +5V (power) hidden to +5V
part C pins: 5 I0 (in), 6 ~{O} (oc), 7 GND (power) hidden to GND, 14 +5V (power) hidden to +5V
part D pins: 7 GND (power) hidden to GND, 8 ~{O} (oc), 9 I0 (in), 14 +5V (power) hidden to +5V
part E pins: 7 GND (power) hidden to GND, 10 ~{O} (oc), 11 I0 (in), 14 +5V (power) hidden to +5V
part F pins: 7 GND (power) hidden to GND, 12 ~{O} (oc), 13 I0 (in), 14 +5V (power) hidden to +5V

## SD32
designator U?
Text Field1: 60; Text Field2: 80
pins: 2 W (in)

## TR2M
designator U?
Text Field1: 60; Text Field2: 140
pins: 1 1R (in), 2 1S1 (in), 3 1S2 (in), 4 1Q (out), 5 2R (in), 6 2S (in), 7 2Q (out), 9 3Q (out), 10 3R (in), 11 3S1 (in), 12 3S2 (in), 13 4Q (out), 14 4R (in), 15 4S (in)